# Altium schematic symbol library O_O.SchLib: 227 symbols
Pins are listed as number, name and electrical type; pins without a type are passive.

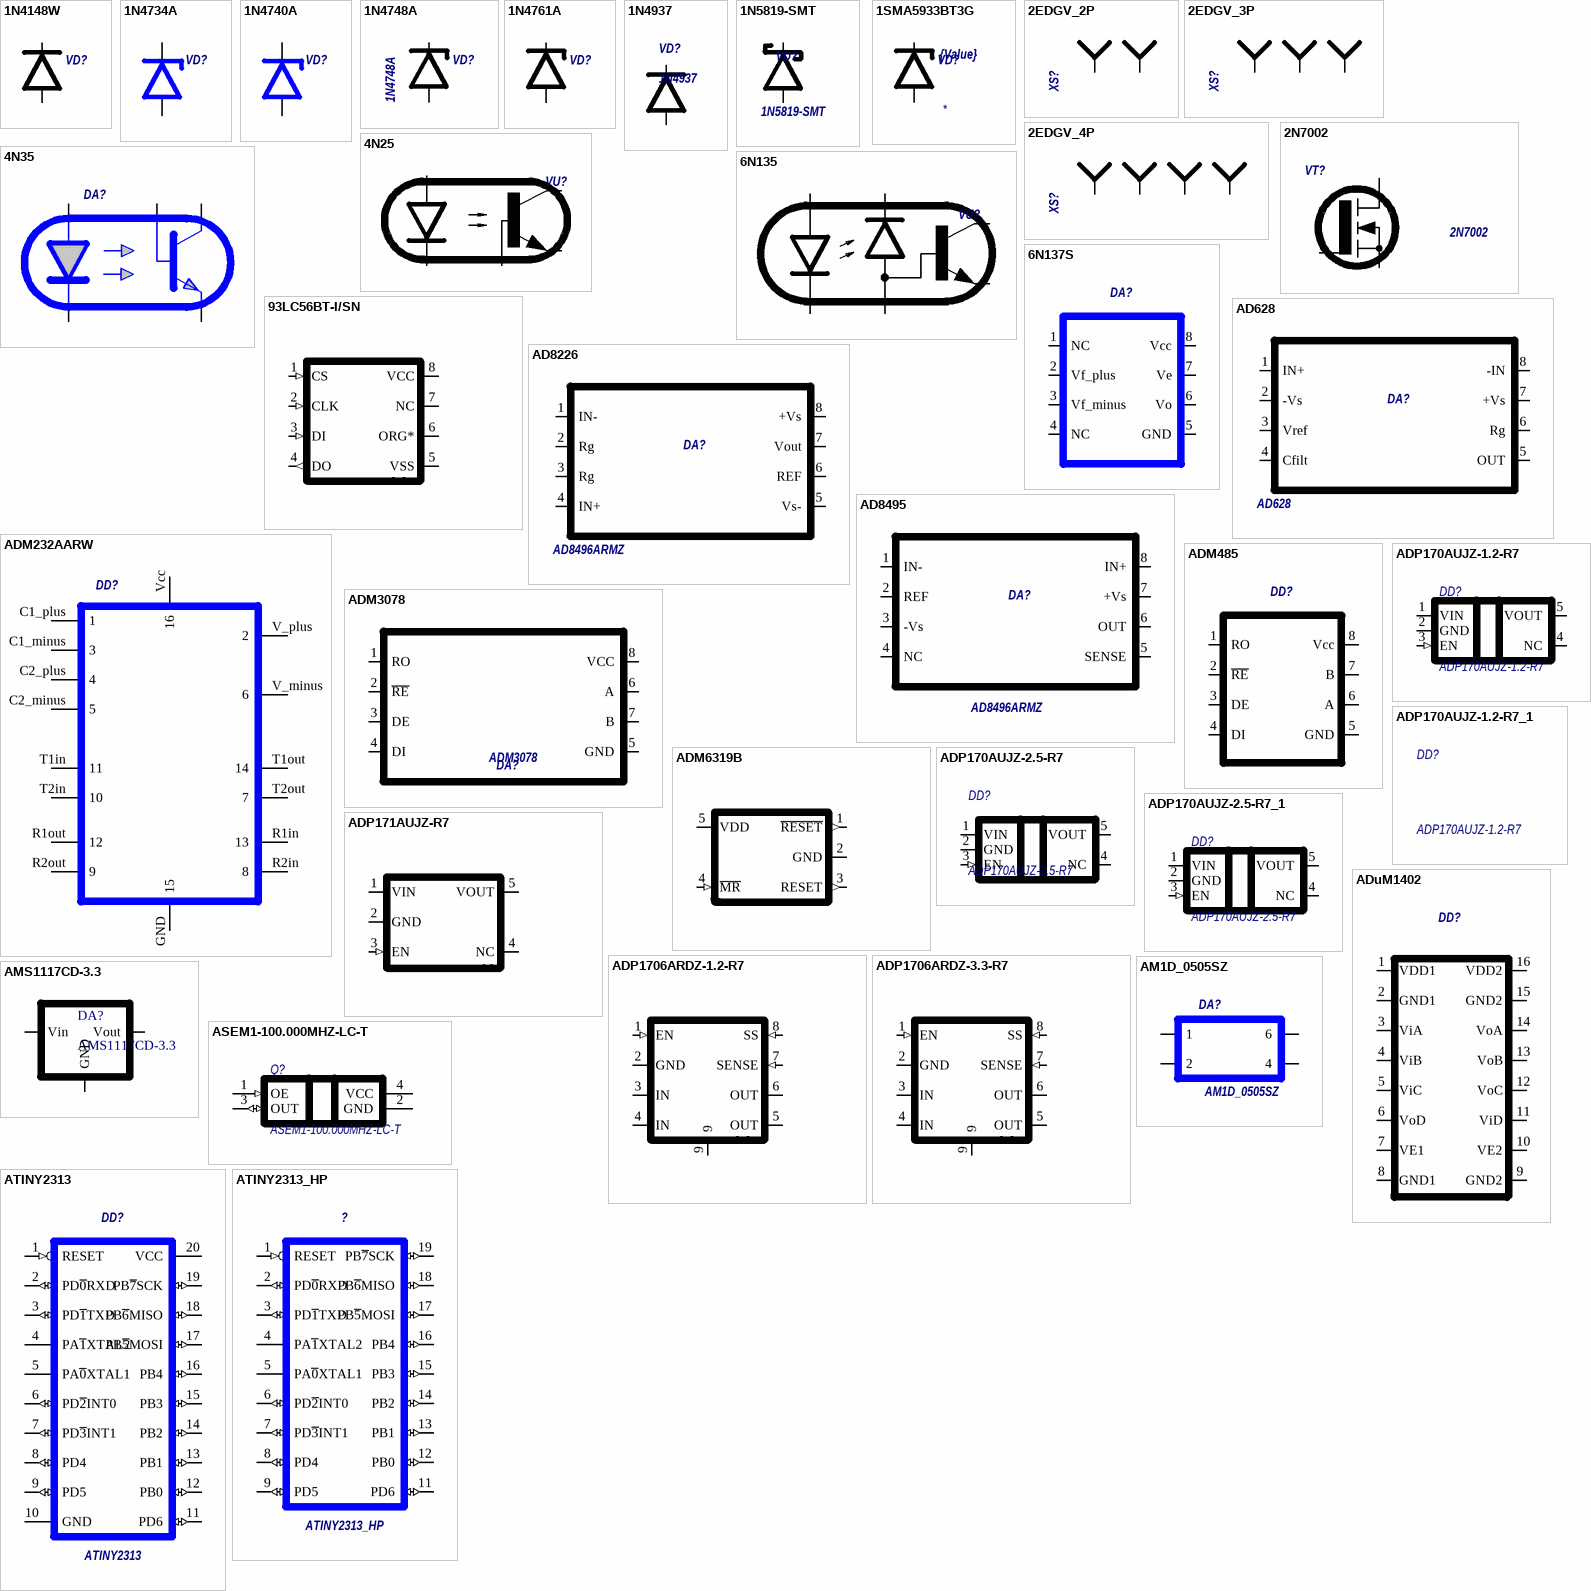
[diagram p0: symbols 1N4148W to ATINY2313_HP]

## 1N4148W
designator VD?  (value not drawn)
Value: {Value}
footprint SOD_123_1N4148W(Primary)
footprint SOD123 (SOD-123; 2 Leads; Body 2.7 x 1.6 mm, (LxW))
footprint SOD323 (SOD-123; 2 Leads; Body 2.7 x 1.6 mm, (LxW))
pins: 1 a, 2 k

## 1N4734A
designator VD?  (value not drawn)
Value: {Value}
footprint DO41
pins: 1 katode, 2 anode

## 1N4740A
designator VD?  (value not drawn)
Value: {Value}
footprint DO41
pins: 1 katode, 2 anode

## 1N4748A
designator VD?
1.0 Watt   Zener Diode 75 Volts; Value: {Value}
footprint DO41
pins: 1 anode, 2 katode

## 1N4761A
designator VD?  (value not drawn)
1.0 Watt   Zener Diode 75 Volts; Value: {Value}
footprint DO41
pins: 1 katode, 2 anode

## 1N4937
designator VD?
1A 600V FastRECTIFIER
footprint DO41
pins: 1 a, 2 k

## 1N5819-SMT
designator VD?  value 1N5819-SMT  (hidden comment: *)
footprint SMA_DO214AC
footprint DO-213AB (Diode SMT package)
pins: 1 a, 2 k

## 1SMA5933BT3G
designator VD?, comment {Value}
22V ZENER DIODE; Value: {Value}; fab: *
footprint SMB_DO214AA
footprint SMA_DO214AC
pins: 1 katode, 2 anode

## 2EDGV_2P
designator XS?  (value not drawn)
Value: *
footprint 2EDGV_2P
footprint 2EDGR_2P
pins: 1, 2

## 2EDGV_3P
designator XS?  (value not drawn)
2EDGV_4P; Value: *
footprint 2EDGR_3P
pins: 1, 2, 3

## 2EDGV_4P
designator XS?  (value not drawn)
Value: *
footprint 2EDGV_4P
footprint 2EDGR_4P
pins: 1, 2, 3, 4

## 2N7002
designator VT?
2N7002 N-channel mosfet; Value: 2N7002
footprint SOT23
pins: 1 gate, 2 source, 3 drain

## 4N25
designator VU?  (value not drawn)
Optocoupler, Phototransistor Output, with Base Connection; Value: {Value}
footprint DIP6_SMD
pins: 1 anode, 2 katode, 4 emitter, 5 collector, 6 base

## 4N35
designator DA?  (value not drawn)
Value: {Value}
footprint DIP6_SMD
pins: 1 anode, 2 cathode, 4 emitter, 5 collector, 6 base

## 6N135
designator VU?  (value not drawn)
High Speed Optocoupler 1 MBd with Transistor Output; Value: {Value}
footprint DIP8_SMD
pins: 2 anode, 3 katode, 5 emitter, 6 collector, 7 base, 8 base

## 6N137S
designator DA?  (value not drawn)
Value: *
footprint DIP8_SMD
pins: 1 NC, 2 Vf_plus, 3 Vf_minus, 4 NC, 5 GND, 6 Vo, 7 Ve, 8 Vcc

## 93LC56BT-I/SN
designator DD?
2K Microwire Compatible Serial EEPROM
footprint MSOP-8
pins: 1 CS (in), 2 CLK (in), 3 DI (in), 4 DO (out), 5 VSS (power), 6 ORG* (power), 7 NC, 8 VCC (power)

## AD628
designator DA?  man: AD628  (hidden comment: *)
footprint SOIC-8
pins: 1 IN+, 2 -Vs, 3 Vref, 4 Cfilt, 5 OUT, 6 Rg, 7 +Vs, 8 -IN

## AD8226
designator DA?  man: AD8496ARMZ  (hidden comment: *)
Wide Supply Range, Rail-to-Rail  Output Instrumentation Amplifier
footprint SOIC-8
footprint MSOP-8
pins: 1 IN-, 2 Rg, 3 Rg, 4 IN+, 5 Vs-, 6 REF, 7 Vout, 8 +Vs

## AD8495
designator DA?, comment AD8496ARMZ
Termocouple Amplifiers With Cold Junction Compensation; man: AD8496ARMZ
footprint MSOP-8
pins: 1 IN-, 2 REF, 3 -Vs, 4 NC, 5 SENSE, 6 OUT, 7 +Vs, 8 IN+

## ADM232AARW
designator DD?  (value not drawn)
Value: *
footprint SOIC16_W_ADM232AARW(Primary)
pins: C1_minus 3, C1_plus 1, C2_minus 5, C2_plus 4, GND 15, R1in 13, R1out 12, R2in 8, R2out 9, T1in 11, T1out 14, T2in 10, T2out 7, V_minus 6, V_plus 2, Vcc 16

## ADM485
designator DD?  (value not drawn)
Value: *
footprint DIP8_SMD
footprint SOIC-8
pins: 1 RO, 2 ~{RE}, 3 DE, 4 DI, 5 GND, 6 A, 7 B, 8 Vcc

## ADM3078
designator DA?
value: ADM3078
footprint SOIC-8
pins: 1 RO, 2 ~{RE}, 3 DE, 4 DI, 5 GND, 6 A, 7 B, 8 VCC

## ADM6319B
designator DD?
Sypply monitor whith manual reset
footprint SOT23-5AN
pins: 1 ~{RESET} (out), 2 GND (power), 3 RESET (out), 4 ~{MR} (in), 5 VDD (power)

## ADP170AUJZ-1.2-R7
designator DD?
footprint SOT23-5AN
pins: 1 VIN, 2 GND, 3 EN (in), 4 NC, 5 VOUT

## ADP170AUJZ-1.2-R7_1
designator DD?, comment ADP170AUJZ-1.2-R7
footprint SOT23-5AN

## ADP170AUJZ-2.5-R7
designator DD?
footprint SOT23-5AN
pins: 1 VIN, 2 GND, 3 EN (in), 4 NC, 5 VOUT

## ADP170AUJZ-2.5-R7_1
designator DD?, comment ADP170AUJZ-2.5-R7
footprint SOT23-5AN
pins: 1 VIN, 2 GND, 3 EN (in), 4 NC, 5 VOUT

## ADP171AUJZ-R7
designator DA?
300 mA, Low Quiescent Current,  CMOS Linear Regulator
footprint SOT23-5AN
pins: 1 VIN, 2 GND (power), 3 EN (in), 4 NC (power), 5 VOUT

## ADP1706ARDZ-1.2-R7
designator DA?
1 A, Low Dropout,  CMOS Linear Regulator
footprint SOIC-8 EP(9lead)
pins: 1 EN (in), 2 GND (power), 3 IN (power), 4 IN (power), 5 OUT (power), 6 OUT (power), 7 SENSE (in), 8 SS (in), 9

## ADP1706ARDZ-3.3-R7
designator DA?
1 A, Low Dropout,  CMOS Linear Regulator
footprint SOIC-8 EP(9lead)
pins: 1 EN (in), 2 GND (power), 3 IN (power), 4 IN (power), 5 OUT (power), 6 OUT (power), 7 SENSE (in), 8 SS (in), 9

## ADuM1402
designator DD?  (value not drawn)
Quad-Channel Digital Isolators; Value: *
footprint SOIC-16W
pins: 1 VDD1, 2 GND1, 3 ViA, 4 ViB, 5 ViC, 6 VoD, 7 VE1, 8 GND1, 9 GND2, 10 VE2, 11 ViD, 12 VoC, 13 VoB, 14 VoA, 15 GND2, 16 VDD2

## AM1D_0505SZ
designator DA?
Value: *
footprint AM1D_0505SZ_AM1D_0505SZ(Primary)
pins: 1, 2, 4, 6

## AMS1117CD-3.3
designator DA?
800mA Low-Dropout Linear Regulator
footprint SOT223
pins: 1 Vin, 2 GND, 3 Vout

## ASEM1-100.000MHZ-LC-T
designator Q?
footprint QFN3.2x2.5 (ASEM Oscillator)
pins: 1 OE (in), 2 GND (power), 3 OUT (io), 4 VCC (power)

## ATINY2313
designator DD?
Value: *
footprint SO20
pins: 1 RESET (in), 2 PD~{0}RXD (io), 3 PD~{1}TXD (io), 4 PA~{1}XTAL2, 5 PA~{0}XTAL1, 6 PD~{2}INT0 (io), 7 PD~{3}INT1 (io), 8 PD4 (io), 9 PD5 (io), 10 GND (power), 11 PD6 (io), 12 PB0 (io), 13 PB1 (io), 14 PB2 (io), 15 PB3 (io), 16 PB4 (io), 17 PB~{5}MOSI (io), 18 PB~{6}MISO (io), 19 PB~{7}SCK (io), 20 VCC (power)

## ATINY2313_HP
designator ?
Value: *
footprint SO20
pins: 1 RESET (in), 2 PD~{0}RXD (io), 3 PD~{1}TXD (io), 4 PA~{1}XTAL2, 5 PA~{0}XTAL1, 6 PD~{2}INT0 (io), 7 PD~{3}INT1 (io), 8 PD4 (io), 9 PD5 (io), 10 GND (power) hidden, 11 PD6 (io), 12 PB0 (io), 13 PB1 (io), 14 PB2 (io), 15 PB3 (io), 16 PB4 (io), 17 PB~{5}MOSI (io), 18 PB~{6}MISO (io), 19 PB~{7}SCK (io), 20 +5V (power) hidden

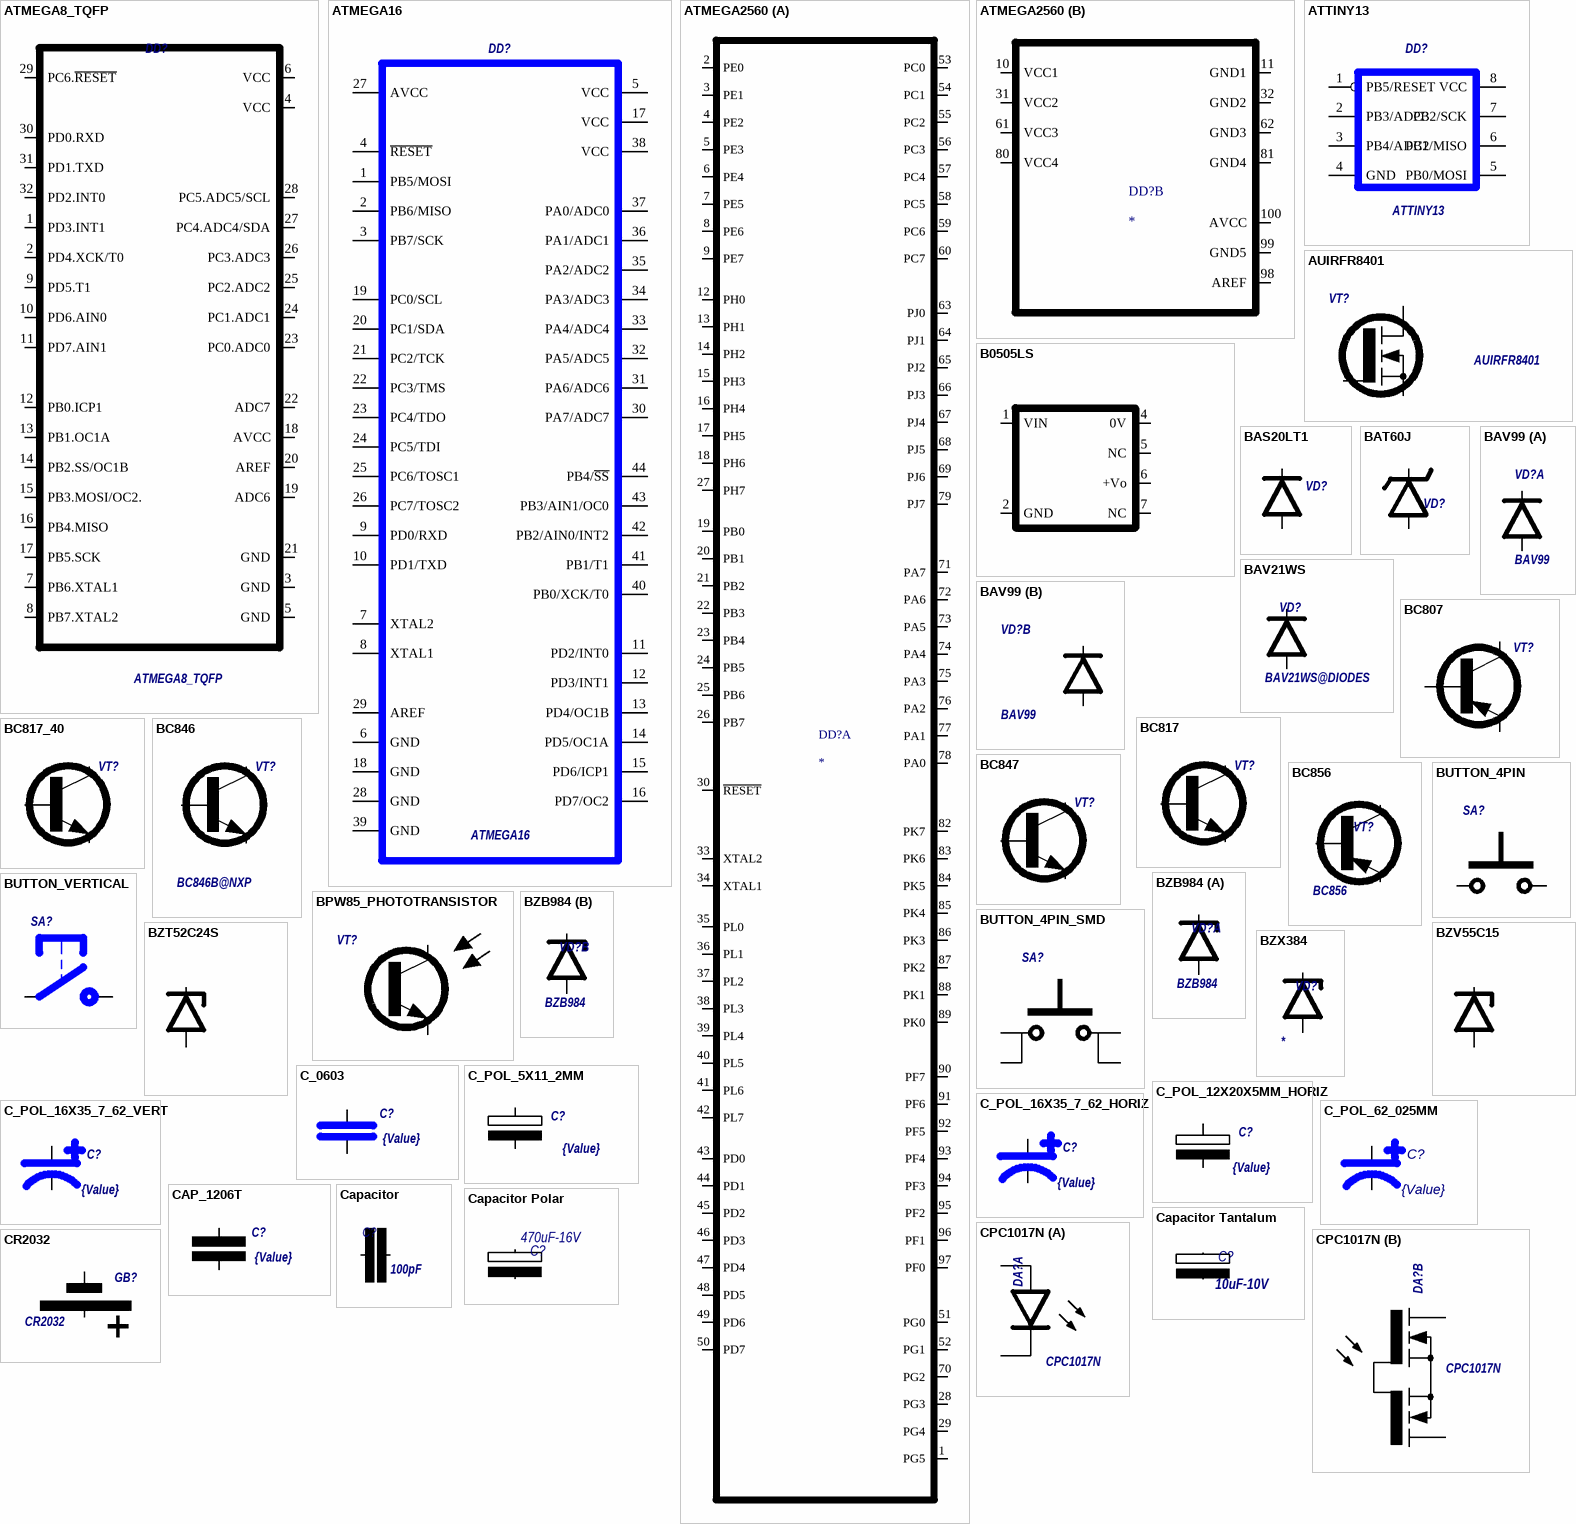
[diagram p1: symbols ATMEGA8_TQFP to CR2032]

## ATMEGA8_TQFP
designator DD?
Value: *
footprint TQFP32A
pins: 1 PD3.INT1, 2 PD4.XCK/T0, 3 GND, 4 VCC, 5 GND, 6 VCC, 7 PB6.XTAL1, 8 PB7.XTAL2, 9 PD5.T1, 10 PD6.AIN0, 11 PD7.AIN1, 12 PB0.ICP1, 13 PB1.OC1A, 14 PB2.SS/OC1B, 15 PB3.MOSI/OC2., 16 PB4.MISO, 17 PB5.SCK, 18 AVCC, 19 ADC6, 20 AREF, 21 GND, 22 ADC7, 23 PC0.ADC0, 24 PC1.ADC1, 25 PC2.ADC2, 26 PC3.ADC3, 27 PC4.ADC4/SDA, 28 PC5.ADC5/SCL, 29 PC6.~{RESET}, 30 PD0.RXD, 31 PD1.TXD, 32 PD2.INT0

## ATMEGA16
designator DD?
Value: *
footprint TQFP44
pins: 1 PB5/MOSI, 2 PB6/MISO, 3 PB7/SCK, 4 ~{RESET}, 5 VCC, 6 GND, 7 XTAL2, 8 XTAL1, 9 PD0/RXD, 10 PD1/TXD, 11 PD2/INT0, 12 PD3/INT1, 13 PD4/OC1B, 14 PD5/OC1A, 15 PD6/ICP1, 16 PD7/OC2, 17 VCC, 18 GND, 19 PC0/SCL, 20 PC1/SDA, 21 PC2/TCK, 22 PC3/TMS, 23 PC4/TDO, 24 PC5/TDI, 25 PC6/TOSC1, 26 PC7/TOSC2, 27 AVCC, 28 GND, 29 AREF, 30 PA7/ADC7, 31 PA6/ADC6, 32 PA5/ADC5, 33 PA4/ADC4, 34 PA3/ADC3, 35 PA2/ADC2, 36 PA1/ADC1, 37 PA0/ADC0, 38 VCC, 39 GND, 40 PB0/XCK/T0, 41 PB1/T1, 42 PB2/AIN0/INT2, 43 PB3/AIN1/OC0, 44 PB4/~{SS}

## ATMEGA2560
designator DD?
Atmega2560 - TQFP100; Velue: *
footprint TQFP100
part A pins: 1 PG5, 2 PE0, 3 PE1, 4 PE2, 5 PE3, 6 PE4, 7 PE5, 8 PE6, 9 PE7, 12 PH0, 13 PH1, 14 PH2, 15 PH3, 16 PH4, 17 PH5, 18 PH6, 19 PB0, 20 PB1, 21 PB2, 22 PB3, 23 PB4, 24 PB5, 25 PB6, 26 PB7, 27 PH7, 28 PG3, 29 PG4, 30 ~{RESET}, 33 XTAL2, 34 XTAL1, 35 PL0, 36 PL1, 37 PL2, 38 PL3, 39 PL4, 40 PL5, 41 PL6, 42 PL7, 43 PD0, 44 PD1, 45 PD2, 46 PD3, 47 PD4, 48 PD5, 49 PD6, 50 PD7, 51 PG0, 52 PG1, 53 PC0, 54 PC1, 55 PC2, 56 PC3, 57 PC4, 58 PC5, 59 PC6, 60 PC7, 63 PJ0, 64 PJ1, 65 PJ2, 66 PJ3, 67 PJ4, 68 PJ5, 69 PJ6, 70 PG2, 71 PA7, 72 PA6, 73 PA5, 74 PA4, 75 PA3, 76 PA2, 77 PA1, 78 PA0, 79 PJ7, 82 PK7, 83 PK6, 84 PK5, 85 PK4, 86 PK3, 87 PK2, 88 PK1, 89 PK0, 90 PF7, 91 PF6, 92 PF5, 93 PF4, 94 PF3, 95 PF2, 96 PF1, 97 PF0
part B pins: 10 VCC1, 11 GND1, 31 VCC2, 32 GND2, 61 VCC3, 62 GND3, 80 VCC4, 81 GND4, 98 AREF, 99 GND5, 100 AVCC

## ATTINY13
designator DD?
Value: *
footprint SOIC8
pins: 1 PB5/RESET, 2 PB3/ADC3, 3 PB4/ADC2, 4 GND, 5 PB0/MOSI, 6 PB1/MISO, 7 PB2/SCK, 8 VCC

## AUIRFR8401
designator VT?
Value: AUIRFR8401
footprint DPAK
pins: 1 source, 2 gate, 3 drain

## B0505LS
designator DD?
DC/DC isolated converter 1W 200mA
footprint 0505LS-ISO_POWER
pins: 1 VIN (power), 2 GND (power), 4 0V (power), 5 NC (power), 6 +Vo (power), 7 NC (power)

## BAS20LT1
designator VD?  (value not drawn)
High Voltage  Switching Diode; Value: {Value}
footprint SOT23
pins: 1 a, 3 k

## BAT60J
designator VD?, comment BAT60JFILM  (value not drawn)
SMALL SIGNAL SCHOTTKY DIODE  10V 3A; Value: {Value}
footprint SOD323 (SOD-123; 2 Leads; Body 2.7 x 1.6 mm, (LxW))
pins: 1 anode, 2 katode

## BAV21WS
designator VD?  man: BAV21WS@DIODES  (hidden comment: *)
SURFACE MOUNT HIGH VOLTAGE FAST SWITCHING DIODE
footprint SOD323 (SOD-123; 2 Leads; Body 2.7 x 1.6 mm, (LxW))
pins: 1 a, 2 k

## BAV99
designator VD?  type: BAV99  (hidden comment: *)
footprint SOT23
part A pins: 1 a, 3 k
part B pins: 2 k, 3 a

## BC807
designator VT?  (value not drawn)
BC807; Value: {Value}
footprint SOT23
pins: 1 base, 2 emitter, 3 collector

## BC817
designator VT?  (value not drawn)
Value: {Value}
footprint SOT23
pins: 1 base, 2 emitter, 3 collector

## BC817_40
designator VT?  (value not drawn)
Value: {Value}
footprint SOT23
pins: 1 base, 2 emitter, 3 collector

## BC846
designator VT?  man: BC846B@NXP  (hidden comment: BC846)
footprint SOT23
pins: 1 base, 2 emitter, 3 collector

## BC847
designator VT?  (value not drawn)
Value: {Value}
footprint SOT23
pins: 1 base, 2 emitter, 3 collector

## BC856
designator VT?  man: BC856  (hidden comment: *)
footprint SOT23
pins: 1 base, 2 emitter, 3 collector

## BPW85_PHOTOTRANSISTOR
designator VT?  (value not drawn)
Value: {Value}
footprint PLS_1X2
pins: 1 emitter, 2 collector

## BUTTON_4PIN
designator SA?  (value not drawn)
Value: *
footprint BUTTON_4PIN_BUTTON_4PIN(Primary); pin to pad 1>1+2 3>3+4
pins: 1, 3

## BUTTON_4PIN_SMD
designator SA?  (value not drawn)
Value: *
footprint BUTTON_SMD_4PIN
pins: 1, 2, 3, 4

## BUTTON_VERTICAL
designator SA?  (value not drawn)
Value: *
footprint BUTTON_VERTICAL
pins: 1, 2

## BZB984
designator VD?  man: BZB984  (hidden comment: *)
Dual Zener diode
footprint SOT663
part A pins: 1 katode, 3 anode
part B pins: 2 katode, 3 anode

## BZT52C24S
designator VD?
Zener diode 24V
footprint SOD323 (SOD-123; 2 Leads; Body 2.7 x 1.6 mm, (LxW))
pins: 1 anode, 2 katode

## BZV55C15
designator VD?
Zener diode 15V
footprint DL-41 (SMT diode)
pins: 1 anode, 2 katode

## BZX384
designator VD?
Zener diode; man: *
footprint SOD323 (SOD-123; 2 Leads; Body 2.7 x 1.6 mm, (LxW))
pins: 1 katode, 2 anode

## C_0603
designator C?  value {Value}  (hidden comment: C_0603)
footprint SMD 0603
pins: 1 2, 2 1

## C_POL_5X11_2MM
designator C?  value {Value}  (hidden comment: C_POL_5X11_2MM)
footprint CAP_POLAR_5X11MM_VERT_2_C_POL_5X11_2MM(Primary)
pins: minus 2, plus 1

## C_POL_12X20X5MM_HORIZ
designator C?  value {Value}  (hidden comment: C_POL_12X20X5MM_HORIZ)
footprint C_POL_12X20X5MM_C_POL_12X20X5MM_HORIZ(Primary)
pins: 1, 2

## C_POL_16X35_7_62_HORIZ
designator C?  value {Value}  (hidden comment: C_POL_16X35_7_62_HORIZ)
footprint CAP_POLAR_16X35MM_HORIZ_7_62_C_POL_16X35_7_62_HORIZ(Primary)
pins: minus 2, plus 1

## C_POL_16X35_7_62_VERT
designator C?  value {Value}  (hidden comment: C_POL_16X35_7_62_VERT)
footprint CAP_POLAR_16X35MM_VERT_7_62_C_POL_16X35_7_62_VERT(Primary)
pins: minus 2, plus 1

## C_POL_62_025MM
designator C?  value {Value}  (hidden comment: C_POL_62_025MM)
footprint CAPD62_025MM_C_POL_62_025MM(Primary)
pins: MINUS 2, PLUS 1

## CAP_1206T
designator C?  value {Value}  (hidden comment: CAP_1206T)
footprint 1206T_CAP_1206T(Primary)
pins: 1, 2

## Capacitor
designator C?, comment 100pF
Capacitor; Value: 100pF
simulation model CAP (Capacitor)
signal-integrity model Cap
footprint C0603
footprint C0402 (Chip Capacitor, Body 1.0x0.5mm, IPC High Density)
footprint CAPC2012L
footprint C0805 (Chip Capacitor, Body 2.0x1.3mm, IPC Medium Density)
footprint K73-17 (Film capacitor)
footprint 15mm_FILM_CAP
footprint C1206
footprint 15mm_HIGH VOLTAGE_CAP
footprint 10mm_HIGH VOLTAGE_CAP - duplicate
footprint C2220
footprint C1808
footprint X2 EMI filter capacitor (MKP-224K0305AB1151-P)
footprint FIlm capacitor Polyester_ ptich 15mm
footprint CAP_CERAM_7.62_HORIZONTAL-2000V
footprint C1812
footprint C1210
pins: 1, 2

## Capacitor Polar
designator C?, comment 470uF-16V
=Value; Value: 470uF-16V
footprint EEEFK1C471P (Panasonic EEEFK1C471P)
footprint EEETKK101UAQ (Panasonic EEETKK101UAQ)
footprint CAP_POLAR10x12x5mm
footprint CAP_POLAR16x36x7.5mm
footprint CAP_POLAR_6.3X11X2.5mm
footprint EEE-G-10x10 (SMD aluminium electrolityc capacitor)
footprint EEE-K16-20x21 (SMD aluminium electrolityc capacitor)
footprint EEE-E-8x6.2 (SMD aluminium electrolityc capacitor)
footprint CAP_POLAR_16X25MM_horizontal
footprint ALU_SMD_D (Surface mount aluminium capacitor)
footprint Cap_El_13x25x5_Horizontal
footprint Cap_El_5x11x2_horizontal
footprint Cap_El_6.3x11x2.5_horizontal
footprint Cap_El_5x11x2_vertical
footprint Cap_El_8x11x2_horizontal
pins: 1, 2

## Capacitor Tantalum
designator C?, comment 10uF-10V
=Value; DEV: CPS_3216_01; FAB: AVX; TEMP: -55°C а 125°C; BOI: A; DESIG: LOW ESR TANTALUM CAPACITOR; TOL: 10%; REF: TPSA106K010R1800; Value: 10uF-10V
footprint CAPC3216N (Chip Capacitor, Body 3.2x1.6mm, IPC Medium Density)
footprint C7343_tant
footprint Case_B_3528
footprint Case_E_7353H
footprint C0805_CaseP_tantal
footprint C1411_CaseB_Tant
footprint C2916_CaseD_Tant
footprint C2412_CaseC_Tant
footprint C1206_CaseA_Tant
pins: 1 P, 2 M

## CPC1017N
designator DA?
Value: {Value}; man: CPC1017N
footprint CPC1017N
part A pins: 1 a, 2 k
part B pins: 3 drain, 4 drain

## CR2032
designator GB?
Value: {Value}
footprint BH2_SMD_CR2032(Primary)
pins: 1, 2

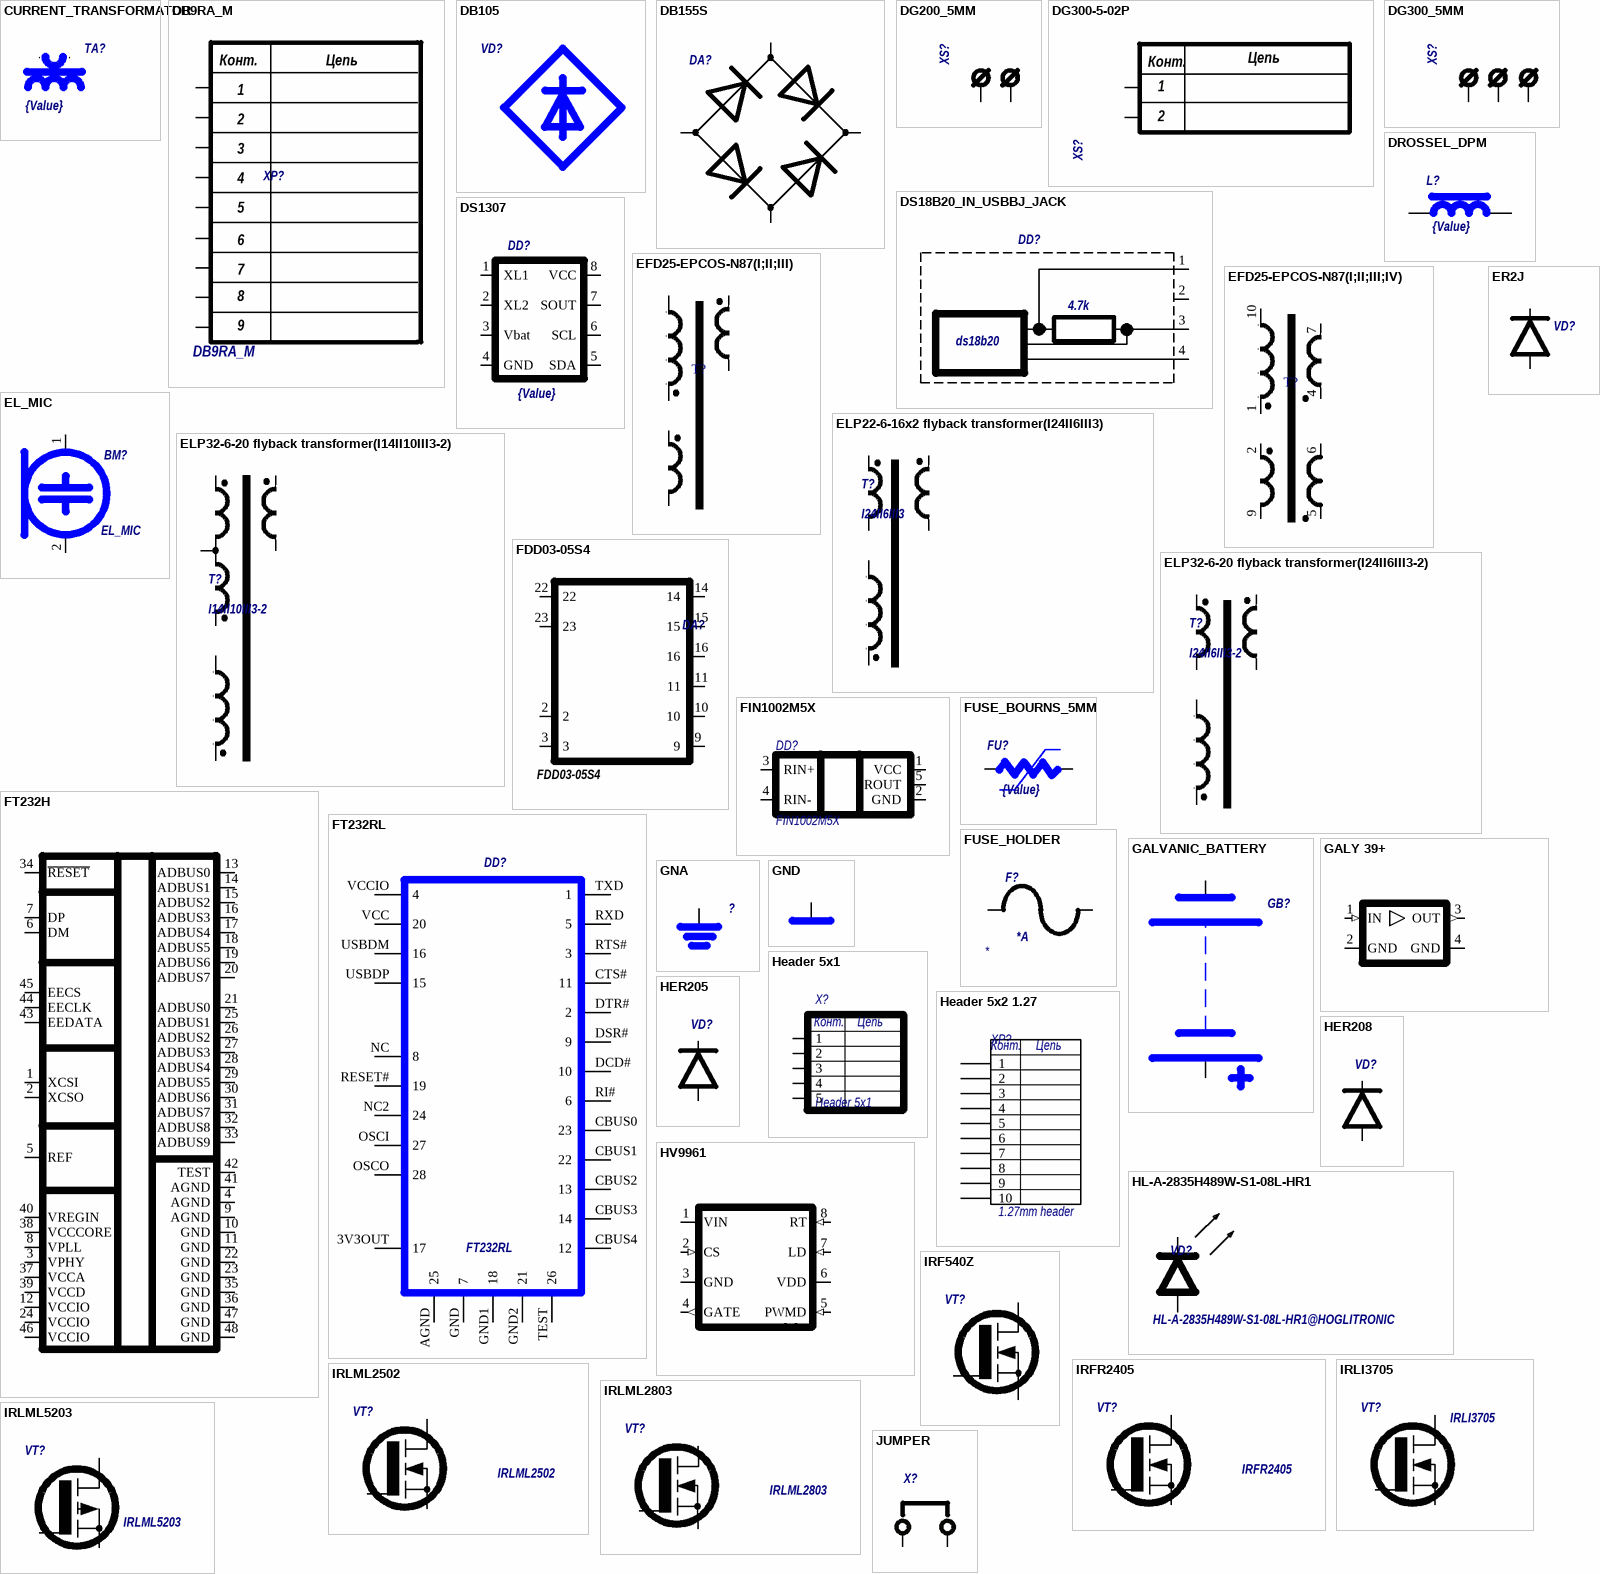
[diagram p2: symbols CURRENT_TRANSFORMATOR to JUMPER]

## CURRENT_TRANSFORMATOR
designator TA?  value {Value}  (hidden comment: CURRENT_TRANSFORMATOR)
footprint CERRENT_TRANSFORMATOR_CURRENT_TRANSFORMATOR(Primary)
pins: 1, 2, 3, 4

## DB9RA_M
designator XP?  man: DB9RA_M  (hidden comment: *)
footprint DB9RA_M
pins: 1, 2, 3, 4, 5, 6, 7, 8, 9
text: Конт.; Цепь

## DB105
designator VD?  (value not drawn)
Value: {Value}
footprint DB1_DB105(Primary)
pins: ac1, ac2, minus, plus

## DB155S
designator DA?  (value not drawn)
Silicon Bridge rectifiers; Value: {Value}
footprint DB155S
pins: 1, 2, 3, 4

## DG200_5MM
designator XS?  (value not drawn)
DG300_5MM; Value: *
footprint DG200_5MM
pins: 1, 2

## DG300-5-02P
designator XS?  (value not drawn)
2x pole PCB clemm; Value: *
footprint DG300-5-02P
pins: 1 XS, 2 XS
text: Цепь; Конт.

## DG300_5MM
designator XS?  (value not drawn)
Value: *
footprint DG300_5MM
pins: 1, 2, 3

## DROSSEL_DPM
designator L?  value {Value}  (hidden comment: DROSSEL_DPM)
footprint DROSSEL_DPM
pins: 1, 2

## DS18B20_IN_USBBJ_JACK
designator DD?  (value not drawn)
Value: *
footprint USBB_FS_DS18B20_IN_USBBJ_JACK(Primary)
footprint USB/SM0.8-6H5 (Connector; USB2.0, Type B, SM; 5 Position; Right Angle); pin to pad 4>5
pins: 1 5V, 2 minus, 3 plus, 4 GND
text: 4.7k; ds18b20

## DS1307
designator DD?  value {Value}  (hidden comment: DS1307)
footprint SO8
pins: 1 XL1, 2 XL2, 3 Vbat, 4 GND, 5 SDA, 6 SCL, 7 SOUT, 8 VCC

## EFD25-EPCOS-N87(I;II;III)
designator T?  (value not drawn)
man: B66421-G-X187,N87@EPCOS
footprint EFD25-EPCOS-N87
pins: 1, 2, 4, 7, 9, 10

## EFD25-EPCOS-N87(I;II;III;IV)
designator T?  (value not drawn)
man: B66421-G-X187,N87@EPCOS
footprint EFD25-EPCOS-N87
pins: 1, 2, 4, 5, 6, 7, 9, 10

## EL_MIC
designator BM?
Value: *
footprint PLS_1X2
pins: 1, 2

## ELP22-6-16x2 flyback transformer(I24II6III3)
designator T?, comment I24II6III3
Planar flyback transformer
footprint ELP22-6-16x2 flyback transformer(I24II6III3) (Planar flyback transformer)
pins: 1, 2, 3, 4, 5, 6

## ELP32-6-20 flyback transformer(I14II10III3-2)
designator T?, comment I14II10III3-2
Planar flyback transformer
footprint ELP32-6-20 flyback transformer(I14II10III3-2) (Planar flyback transformer)
pins: 1, 2, 3, 4, 5, 6, 7

## ELP32-6-20 flyback transformer(I24II6III3-2)
designator T?, comment I24II6III3-2
Planar flyback transformer
footprint ELP32-6-20 flyback transformer(I24II6III3-2) (Planar flyback transformer)
pins: 1, 2, 3, 4, 5, 6

## ER2J
designator VD?  (value not drawn)
Pulse reactifier; Value: {Value}; fab: *
footprint SMB_DO214AA
footprint SMA_DO214AC
pins: 1, 2

## FDD03-05S4
designator DA?  man: FDD03-05S4  (hidden comment: *)
DC - DC CONVERTER  2.5 ~ 3W SINGLE OUTPUT
footprint FDD03-05S4
pins: 2, 3, 9, 10, 11, 14, 15, 16, 22, 23

## FIN1002M5X
designator DD?
footprint SOT23-5AN
footprint SOT23_5LEAD
pins: 1 VCC, 2 GND, 3 RIN+, 4 RIN-, 5 ROUT

## FT232H
designator DD?
SINGLE CHANNEL HI-SPEED USB TO MULTIPURPOSE UART/FIFO IC
footprint LQFP48 (Thin QFP, 48-Leads, Body 7x7mm, Pitch 0.5mm)
pins: 1 XCSI, 2 XCSO, 3 VPHY, 4 AGND, 5 REF, 6 DM, 7 DP, 8 VPLL, 9 AGND, 10 GND, 11 GND, 12 VCCIO, 13 ADBUS0, 14 ADBUS1, 15 ADBUS2, 16 ADBUS3, 17 ADBUS4, 18 ADBUS5, 19 ADBUS6, 20 ADBUS7, 21 ADBUS0, 22 GND, 23 GND, 24 VCCIO, 25 ADBUS1, 26 ADBUS2, 27 ADBUS3, 28 ADBUS4, 29 ADBUS5, 30 ADBUS6, 31 ADBUS7, 32 ADBUS8, 33 ADBUS9, 34 ~{RESET}, 35 GND, 36 GND, 37 VCCA, 38 VCCCORE, 39 VCCD, 40 VREGIN, 41 AGND, 42 TEST, 43 EEDATA, 44 EECLK, 45 EECS, 46 VCCIO, 47 GND, 48 GND

## FT232RL
designator DD?
Value: *
footprint SSOP28_FT232RL(Primary)
pins: 3V3OUT 17, AGND 25, CBUS0 23, CBUS1 22, CBUS2 13, CBUS3 14, CBUS4 12, CTS# 11, DCD# 10, DSR# 9, DTR# 2, GND 7, GND1 18, GND2 21, NC 8, NC2 24, OSCI 27, OSCO 28, RESET# 19, RI# 6, RTS# 3, RXD 5, TEST 26, TXD 1, USBDM 16, USBDP 15, VCC 20, VCCIO 4

## FUSE_BOURNS_5MM
designator FU?  value {Value}  (hidden comment: FUSE_BOURNS_5MM)
footprint FUSE_BOURNS_FUSE_BOURNS_5MM(Primary)
pins: 1, 2

## FUSE_HOLDER
designator F?, comment *A
FUSE_HOLDER; Value: *A; fab: *
footprint FUSE_HOLDER
footprint FUSE VP1-2
footprint ВП2Б-1В
pins: 1, 2

## GALVANIC_BATTERY
designator GB?  (value not drawn)
GALVANIC_BATTERY; Value: {Value}
footprint GALVANIC_BATTERY_GALVANIC_BATTERY(Primary)
pins: GND 1, VCC 2 (power)

## GALY 39+
designator DA?
Surface Mount  Monolithic Amplifier
footprint DF782 (case for GALI-39+)
pins: 1 IN (in), 2 GND (power), 3 OUT (out), 4 GND (power)

## GNA
designator ?  (value not drawn)
GNA; Value: *
pins: 1 GNA (power)

## GND
designator ?  (value not drawn)
GND; Value: *
pins: 1 GND

## Header 5x1
designator X?
footprint HDR1X5
pins: 1, 2, 3, 4, 5
text: Конт.; Цепь

## Header 5x2 1.27
designator XP?, comment 1.27mm header
Header; LatestRevisionDate: 17-Jul-2002; LatestRevisionNote: Re-released for DXP Platform.; Publisher: Altium Limited; Value: 1.27mm header
signal-integrity model Connector
footprint 10PLD_0_7mm
pins: 1, 2, 3, 4, 5, 6, 7, 8, 9, 10
text: Конт.; Цепь

## HER205
designator VD?  (value not drawn)
2A 400V HIGH EFFICIENCY RECTIFIER
footprint DO15
pins: 1 a, 2 k

## HER208
designator VD?  (value not drawn)
2A 1000V HIGH EFFICIENCY RECTIFIER
footprint DO15
pins: 1 a, 2 k

## HL-A-2835H489W-S1-08L-HR1
designator VD?  man: HL-A-2835H489W-S1-08L-HR1@HOGLITRONIC  (hidden comment: *)
HL-A-2835H489W-S1-08L-HR1
footprint LED_2835
pins: 1 A, 2 K

## HV9961
designator DD?
LED Driver with Average-Mode  Constant Current Control
footprint SOIC-8
pins: 1 VIN (power), 2 CS (in), 3 GND (power), 4 GATE (out), 5 PWMD (in), 6 VDD (power), 7 LD (in), 8 RT (in)

## IRF540Z
designator VT?  (value not drawn)
IRF540Z; Value: {Value}
footprint TO220_H
pins: 1 gate, 2 drain, 3 source

## IRFR2405
designator VT?
Power n-channel MOSFET ,55V,56A,0.016Ohm; Value: IRFR2405
footprint DPAK
pins: 1 gate, 2 source, 3 drain

## IRLI3705
designator VT?
Value: IRLI3705
footprint TO220_V_
pins: 1 gate, 2 drain, 3 source

## IRLML2502
designator VT?
Value: IRLML2502
footprint SOT23
pins: 1 gate, 2 source, 3 drain

## IRLML2803
designator VT?
HEXFET® Power MOSFET; Value: IRLML2803
footprint SOT23
pins: 1 gate, 2 source, 3 drain

## IRLML5203
designator VT?
IRLML5203 p-channel mosfet; Value: IRLML5203
footprint SOT23
pins: 1 gate, 2 source, 3 drain

## JUMPER
designator X?  (value not drawn)
Value: *
footprint JUMPER
pins: 1 2, 2 1

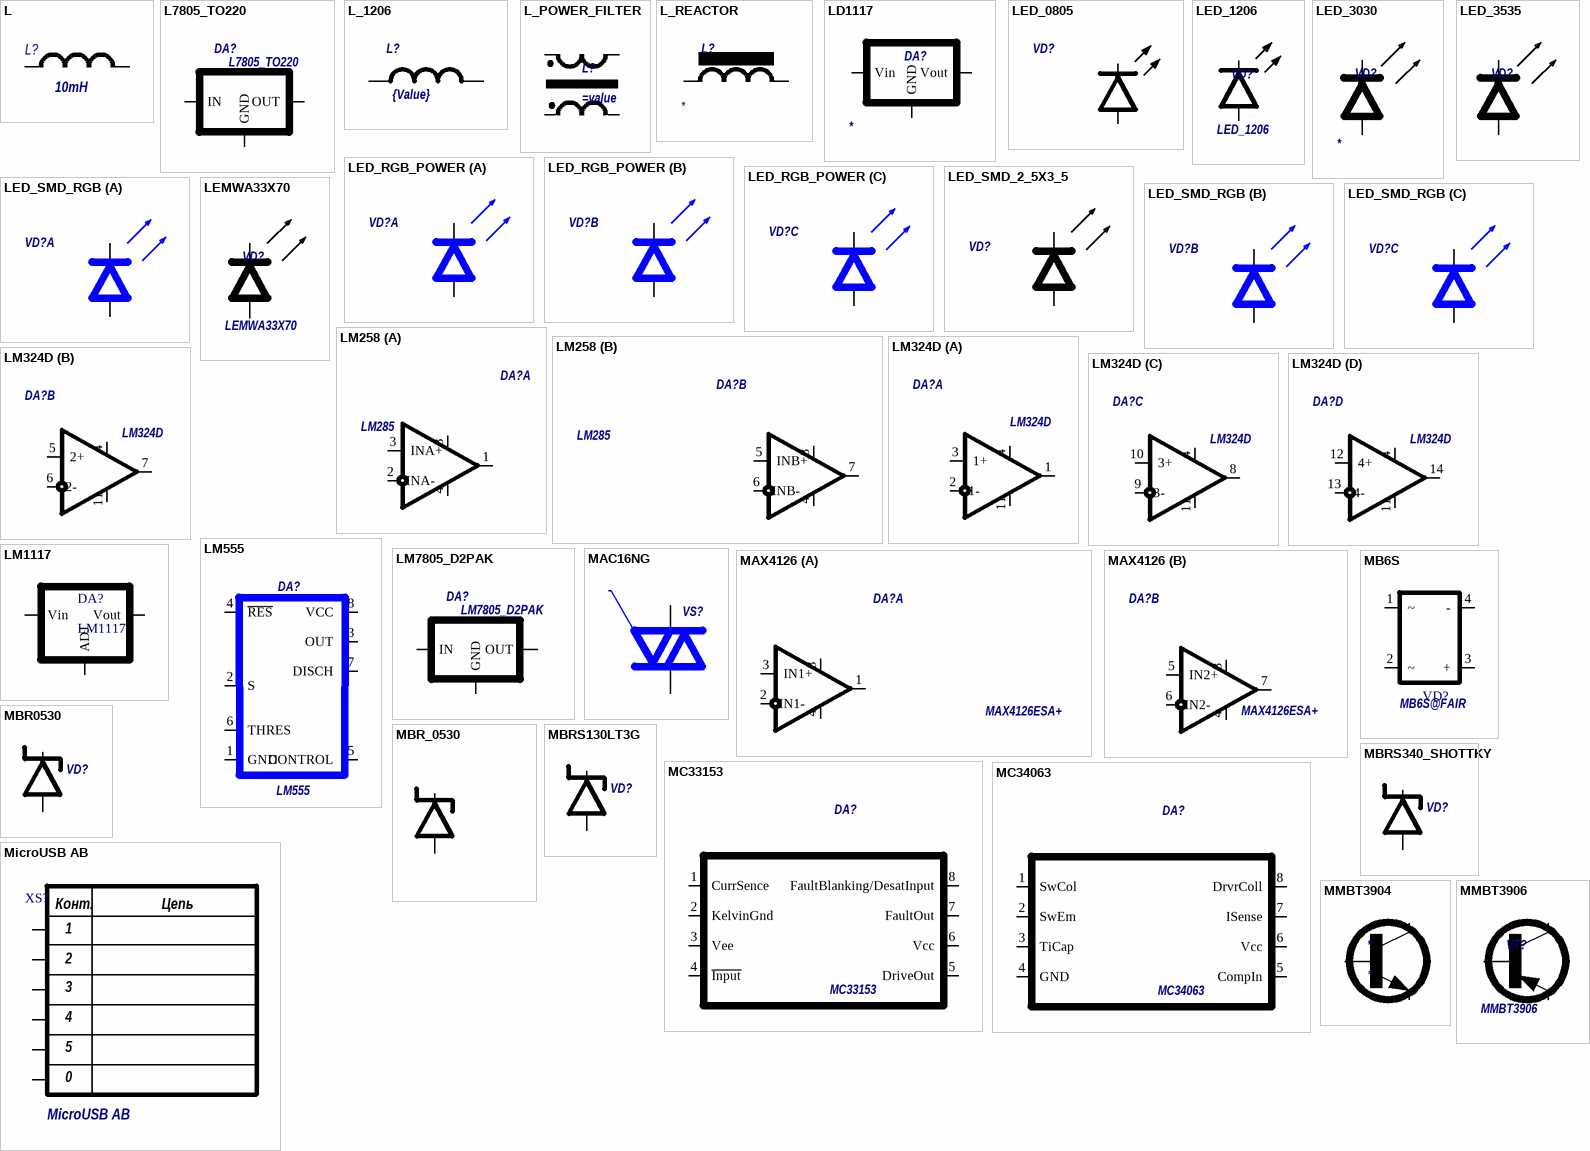
[diagram p3: symbols L to MMBT3906]

## L
designator L?, comment 10mH
Inductor; Code_IEC: 1005; Published: 8-Jun-2000; LatestRevisionDate: 29-May-2009; LatestRevisionNote: IPC-7351 Footprint Added.; PackageReference: 0402-A; Publisher: Altium Limited; PackageDescription: Chip Inductor; Code_JEITA: 0402; Value: 10mH
simulation model INDUCTOR (Inductor)
signal-integrity model Inductor
footprint R0603 (SMD0603)
footprint R0402 (Chip Resistor, Body 1.1x0.5mm, IPC Medium Density)
footprint Colicraft DO1608-103 (Inductor)
footprint INDC2012N (Chip Inductor, Body 2.0x1.2mm, IPC Medium Density)
footprint RESISTOR_0.25W_VERTICAL
footprint RESISTOR_0.25W_HORIZONTAL_PITCH 15.0mm
pins: 1, 2

## L7805_TO220
designator DA?
Value: *
footprint TO220_H_L7805_TO220(Primary)
footprint TO220_SMD
pins: 1 IN, 2 GND, 3 OUT

## L_1206
designator L?  value {Value}  (hidden comment: L_1206)
footprint 1206T
footprint RESISTOR_0.25W_VERTICAL
pins: 1, 2

## L_POWER_FILTER
designator L?
Power filter choke; fab: *
footprint B82720S_CHOKE_DUAL_PLANAR_DROSSEL (Power line choke)
footprint Sinphaze_SMD_Filter (Maurata 5000series); pin to pad 1>2 4>3 8>4
footprint DR331-474BE
footprint PLA10AN3030R4R2
pins: 1, 4, 5, 8

## L_REACTOR
designator L?
L_AVCC; fab: *; value: *
footprint L_AVCC
footprint L_ChokeCoil_ELL5PS (Inductor)
footprint Planar drossel 1.5A 330u
footprint L_SMD_2525
footprint L_SMD 1212
footprint LQH32PN
footprint SDR1006
pins: 1, 2

## LD1117
designator DA?
man: *
footprint SOT223
footprint DPAK
pins: 1 Vin, 2 GND, 3 Vout

## LED_0805
designator VD?  (value not drawn)
Value: {Value}
footprint led0805
footprint LED1608-0603 (Chip Diode; Body 1.6 x 0.8 mm (LxW typ))
pins: 1 K, 2 A

## LED_1206
designator VD?  man: LED_1206  (hidden comment: *)
footprint SMD_LED_1206
pins: 1 K, 2 A

## LED_3030
designator VD?
man: *
footprint LED_3030_NICHIA
pins: 1 A, 2 K

## LED_3535
designator VD?  (value not drawn)
footprint LED_3535
pins: 1 A, 2 K

## LED_RGB_POWER
designator VD?  (value not drawn)
Value: {Value}
footprint LED_POWERSMD_RGB_LED_RGB_POWER(Primary)
part A pins: A1 A, K1 K
part B pins: A2 A, K2 K
part C pins: A3 A, K3 K

## LED_SMD_2_5X3_5
designator VD?  (value not drawn)
Value: {Value}
footprint SMD_LED_2_5X3_5MM
pins: 1 A, 2 K

## LED_SMD_RGB
designator VD?  (value not drawn)
Value: {Value}
footprint LED_RGB_SMD_LED_SMD_RGB(Primary)
part A pins: Ab A, Kb K
part B pins: Ar A, Kr K
part C pins: Ag A, Kg K

## LEMWA33X70
designator VD?  man: LEMWA33X70  (hidden comment: *)
footprint LG_HC35С0-3535 (LG power led)
pins: 1 A, 2 K

## LM258
designator DA?  man: LM285  (hidden comment: *)
footprint SOIC-8
part A pins: 1 OUT1, 2 INA-, 3 INA+, 4 VEE, 8 VCC
part B pins: 4 VEE, 5 INB+, 6 INB-, 7 OUT2, 8 VCC

## LM324D
designator DA?  man: LM324D  (hidden comment: *)
footprint SOIC-14
part A pins: 1 OUT2, 2 1-, 3 1+, 4 VCC+, 11 VCC-
part B pins: 4 VCC+, 5 2+, 6 2-, 7 OUT2, 11 VCC-
part C pins: 4 VCC+, 8 OUT2, 9 3-, 10 3+, 11 VCC-
part D pins: 4 VCC+, 11 VCC-, 12 4+, 13 4-, 14 OUT2

## LM555
designator DA?
Value: *
footprint DIP8_SMD
pins: 1 GND, 2 S, 3 OUT, 4 ~{RES}, 5 CONTROL, 6 THRES, 7 DISCH, 8 VCC

## LM1117
designator DA?
800mA Low-Dropout Linear Regulator
footprint SOT223
pins: 1 Vin, 2 ADJ, 3 Vout

## LM7805_D2PAK
designator DA?
Value: *
footprint D2PAK_LM7805_D2PAK(Primary)
pins: 1 IN, 2 GND, 3 OUT

## MAC16NG
designator VS?  (value not drawn)
Value: {Value}
footprint TO220_V_MAC16NG(Primary)
pins: b MT1, c MT2, e GATE

## MAX4126
designator DA?  man: MAX4126ESA+  (hidden comment: *)
footprint SOIC-8
part A pins: 1 OUT1, 2 IN1-, 3 IN1+, 4 VEE, 8 VCC
part B pins: 4 VEE, 5 IN2+, 6 IN2-, 7 OUT2, 8 VCC

## MB6S
designator VD?, comment MB6S@FAIR
Fast Recovery  Surface Mount Bridge Rectifier; man: MB6S@FAIR
footprint TO-269AA(MBS)
pins: 1 ~, 2 ~, 3 +, 4 -

## MBR0530
designator VD?  (value not drawn)
MBRS340_SHOTTKY; Value: {Value}
footprint DIODE_SMD_S300X400_7X6MM_MBRS340_SHOTTKY(Primary)
footprint SOD123 (SOD-123; 2 Leads; Body 2.7 x 1.6 mm, (LxW))
footprint MBR0530 (diode_schottky)
pins: 1 (power), 2 (power)

## MBR_0530
designator VD?, comment MBR0503
Shottky Reaktifier
footprint MBR0530 (diode_schottky)
footprint SOD123 (SOD-123; 2 Leads; Body 2.7 x 1.6 mm, (LxW))
footprint DIODE_SMD_S300X400_7X6MM_MBRS340_SHOTTKY(Primary)
pins: 1, 2

## MBRS130LT3G
designator VD?  (value not drawn)
Value: {Value}
footprint SMB_DO214AA
footprint SOD123 (SOD-123; 2 Leads; Body 2.7 x 1.6 mm, (LxW))
pins: 1 anode, 2 katode

## MBRS340_SHOTTKY
designator VD?  (value not drawn)
Value: {Value}
footprint DIODE_SMD_S300X400_7X6MM_MBRS340_SHOTTKY(Primary)
footprint SOD123 (SOD-123; 2 Leads; Body 2.7 x 1.6 mm, (LxW))
pins: 1 anode, 2 katode

## MC33153
designator DA?
IGBT driver for high  power applications; Value: *
footprint SOIC-8
pins: 1 CurrSence, 2 KelvinGnd, 3 Vee, 4 ~{Input}, 5 DriveOut, 6 Vcc, 7 FaultOut, 8 FaultBlanking/DesatInput

## MC34063
designator DA?
Value: *
footprint SOIC-8
pins: 1 SwCol, 2 SwEm, 3 TiCap, 4 GND, 5 CompIn, 6 Vcc, 7 ISense, 8 DrvrColl

## MicroUSB AB
designator XS?  (value not drawn)
MicroUSB AB; type: MicroUSB AB
footprint MicroUSB AB
pins: 0 gate, 1 gate, 2 gate, 3 gate, 4 gate, 5 gate
text: Конт.; Цепь

## MMBT3904
designator *
footprint SOT23
pins: 1 base, 2 emitter, 3 collector

## MMBT3906
designator VT?  man: MMBT3906  (hidden comment: *)
footprint SOT23
pins: 1 base, 2 emitter, 3 collector

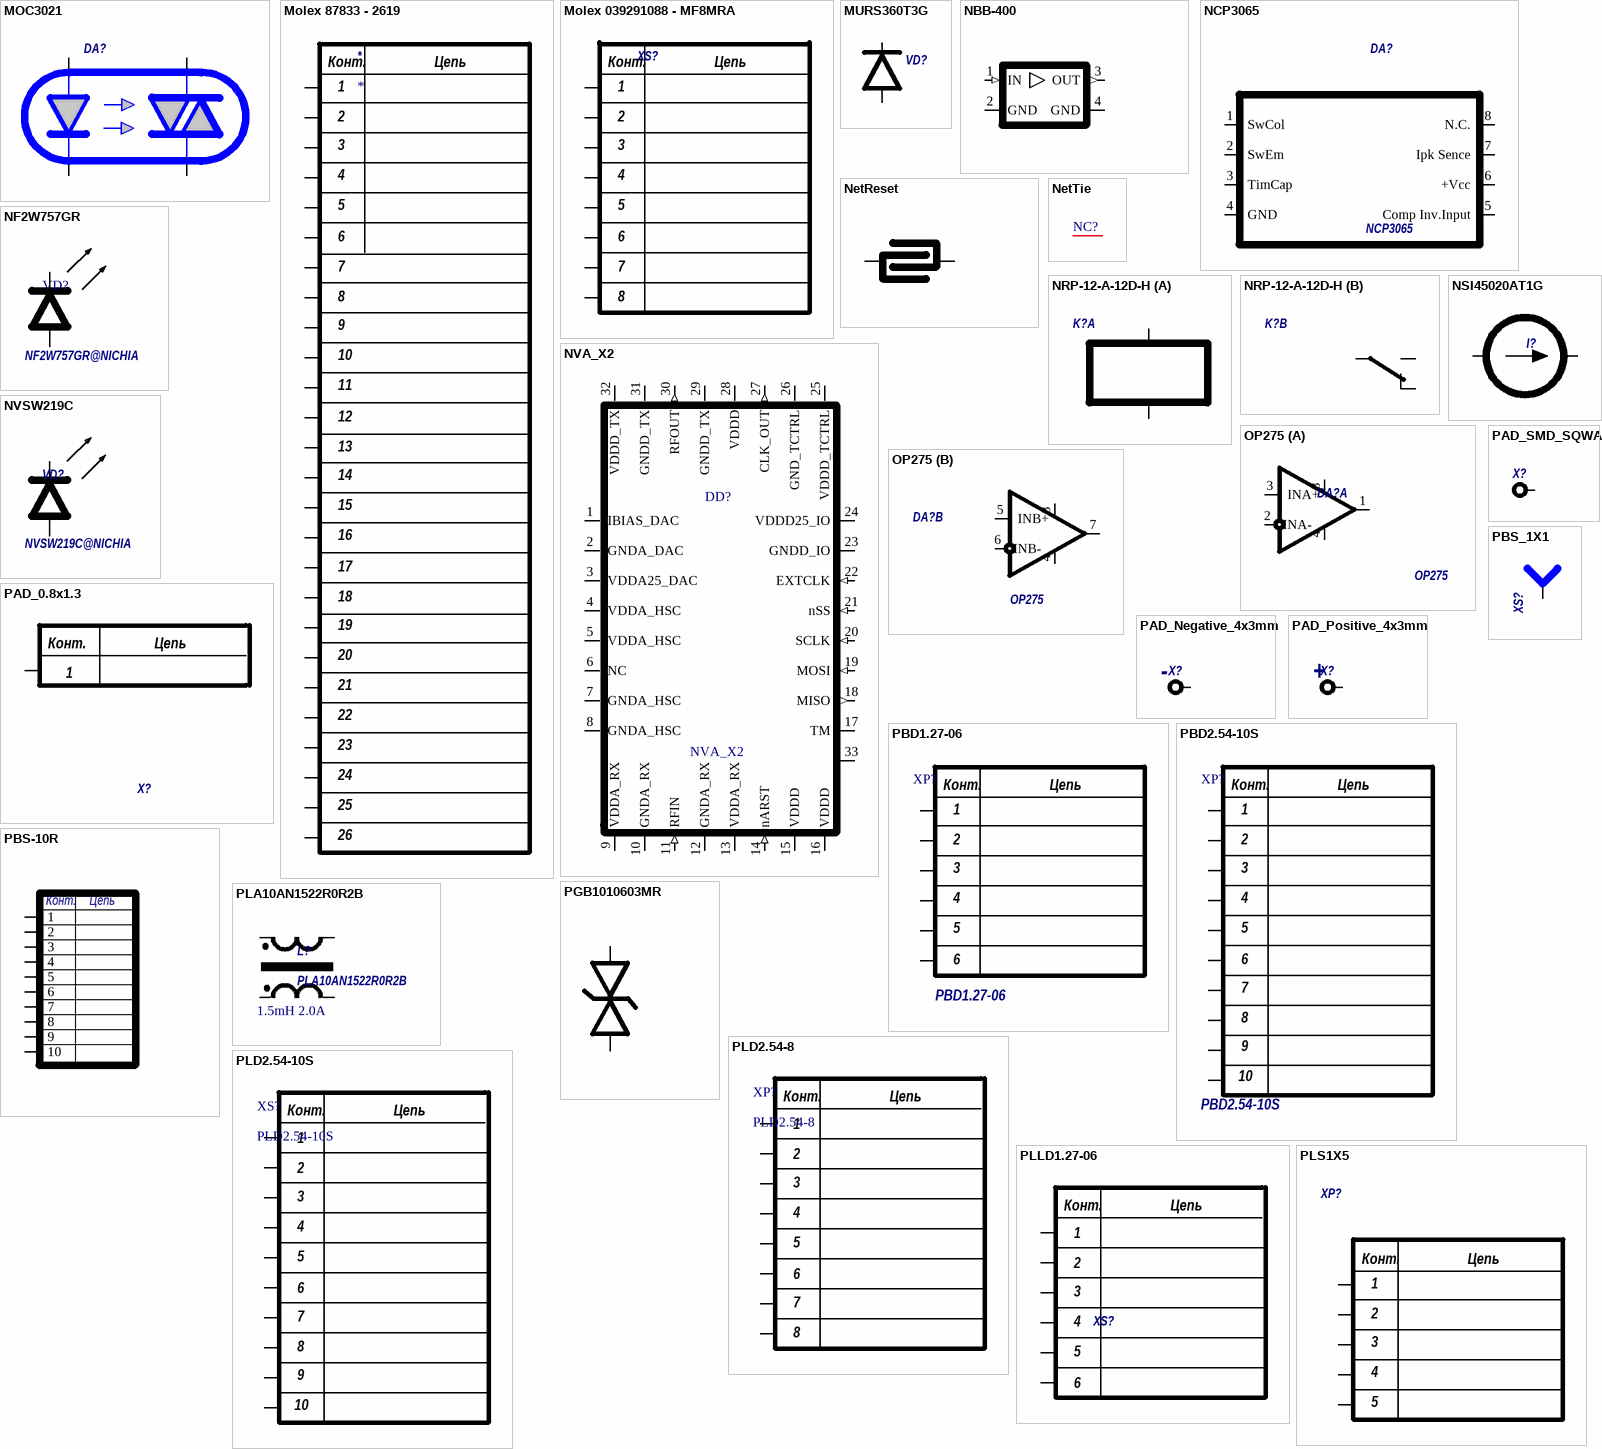
[diagram p4: symbols MOC3021 to PLS1X5]

## MOC3021
designator DA?  (value not drawn)
Value: {Value}
footprint DIP6_SMD
pins: 1 anode, 2 cathode, 4 T2, 6 T1

## Molex 87833 - 2619
designator *
footprint Molex 87833-2619
pins: 1 gate, 2 gate, 3 gate, 4 gate, 5 gate, 6 gate, 7 gate, 8 gate, 9 gate, 10 gate, 11 gate, 12 gate, 13 gate, 14 gate, 15 gate, 16 gate, 17 gate, 18 gate, 19 gate, 20 gate, 21 gate, 22 gate, 23 gate, 24 gate, 25 gate, 26 gate
text: Конт.; Цепь

## Molex 039291088 - MF8MRA
designator XS?  (value not drawn)
footprint Molex 039291088
pins: 1 XS, 2 XS, 3 XS, 4 XS, 5 XS, 6 XS, 7 XS, 8 XS8
text: Конт.; Цепь

## MURS360T3G
designator VD?  (value not drawn)
ULTRAFAST RECTIFIER; Value: {Value}
footprint DO-214AB (Diode SMT package)
pins: 1 a, 2 k

## NBB-400
designator DA?
Cascadable Broadband GaAs MMIC Amplifier  DC to 8  GHz
footprint Micro-X
pins: 1 IN (in), 2 GND (power), 3 OUT (out), 4 GND (power)

## NCP3065
designator DA?
man: NCP3065DR2G@ONS
footprint SOIC-8
pins: 1 SwCol, 2 SwEm, 3 TimCap, 4 GND, 5 Comp Inv.Input, 6 +Vcc, 7 Ipk Sence, 8 N.C.

## NetReset
designator SB?, comment Reset button footprint
Reset footprint
footprint RESET_footprint
pins: 1, 2

## NetTie
designator NC?  (value not drawn)  (net tie, no BOM)
footprint NetConnector
pins: 1, 2

## NF2W757GR
designator VD?  man: NF2W757GR@NICHIA  (hidden comment: NF2W757GR)
footprint NF2W757GR (NICHIA)
pins: 1 A, 2 K

## NRP-12-A-12D-H
designator K?  (value not drawn)
Miniature PCB relay; Value: *
footprint NRP-12-A-12D-H (Miniature PCB Relay)
part A pins: 1, 2
part B pins: 3, 4, 5

## NSI45020AT1G
designator I?  (value not drawn)
Constant current regulator; Value: {Value}
footprint SOD123 (SOD-123; 2 Leads; Body 2.7 x 1.6 mm, (LxW))
pins: 1 a, 2 k

## NVA_X2
designator DD?
footprint 32QFN_5x5mm
footprint QFN32_5x5mm
pins: 1 IBIAS_DAC (io), 2 GNDA_DAC (power), 3 VDDA25_DAC (power), 4 VDDA_HSC (power), 5 VDDA_HSC (power), 6 NC, 7 GNDA_HSC (power), 8 GNDA_HSC (power), 9 VDDA_RX (power), 10 GNDA_RX (power), 11 RFIN (in), 12 GNDA_RX (power), 13 VDDA_RX (power), 14 nARST (in), 15 VDDD (power), 16 VDDD (power), 17 TM, 18 MISO (out), 19 MOSI (in), 20 SCLK (in), 21 nSS (in), 22 EXTCLK (in), 23 GNDD_IO (power), 24 VDDD25_IO (power), 25 VDDD_TCTRL (power), 26 GND_TCTRL (power), 27 CLK_OUT (out), 28 VDDD (power), 29 GNDD_TX (power), 30 RFOUT (out), 31 GNDD_TX (power), 32 VDDD_TX (power), 33 GND

## NVSW219C
designator VD?  man: NVSW219C@NICHIA  (hidden comment: *)
NVSW219C
footprint NVSW219C (NICHIA Power LED)
pins: 1 A, 2 K

## OP275
designator DA?  man: OP275  (hidden comment: *)
Dual Bipolar/JFET, Audio operational Amplifier
footprint SOIC-8
part A pins: 1 OUTA, 2 INA-, 3 INA+, 4 VEE, 8 VCC
part B pins: 4 VEE, 5 INB+, 6 INB-, 7 OUTB, 8 VCC

## PAD_0.8x1.3
designator X?  (value not drawn)
footprint PAD_0.8x1.3
pins: 1
text: Конт.; Цепь

## PAD_Negative_4x3mm
designator X?  (value not drawn)
footprint PAD_Negative_4x3mm
pins: 1
text: -

## PAD_Positive_4x3mm
designator X?  (value not drawn)
footprint PAD_Positve_4x3mm
pins: 1
text: +

## PAD_SMD_SQWARE
designator X?  (value not drawn)
footprint PAD_4.5x3(3.5x2)
footprint PAD_6x3(5x2)
footprint PAD_7x3(6x2)
pins: 1

## PBD1.27-06
designator XP?  (value not drawn)
PBD1.27-06; type: PBD1.27-06
footprint PBD1.27-06S
pins: 1 gate, 1 gate, 1 gate, 1 gate, 1 gate, 1 gate
text: Конт.; Цепь; 2; 3; 4; 5; 6

## PBD2.54-10S
designator XP?  (value not drawn)
PBD2.54-10S; type: PBD2.54-10S
footprint PBD2.54-10S
pins: 1 gate, 1 gate, 1 gate, 1 gate, 1 gate, 1 gate, 1 gate, 1 gate, 1 gate, 1 gate
text: Конт.; Цепь; 2; 3; 4; 5; 6; 7; 8; 9; 10

## PBS-10R
designator XS?
PBS connector
footprint PBS-10R
pins: 1 (power), 2, 3 (power), 4, 5, 6, 7, 8 (power), 9 (power), 10 (power)
text: Конт.; Цепь

## PBS_1X1
designator XS?  (value not drawn)
Value: *
footprint PLSX1
pins: 1

## PGB1010603MR
designator VD?
footprint 0603_PGB1010603 (SMD0603)
pins: 1, 2

## PLA10AN1522R0R2B
designator L?  value 1.5mH 2.0А
AC Line Filters; fab: PLA10AN1522R0R2B
footprint PLA10AN3030R4R2
pins: 1, 4, 5, 8

## PLD2.54-8
designator XP?
type: PLD2.54-8
footprint PLD2X4_254
pins: 1 XP, 2 XP, 3 XP, 4 XP, 5 XP, 6 XP, 7 XP, 8 XP
text: Конт.; Цепь

## PLD2.54-10S
designator XS?
type: PLD2.54-10S
footprint PLD2.54-10S
pins: 1 gate, 1 gate, 1 gate, 1 gate, 1 gate, 1 gate, 1 gate, 1 gate, 1 gate, 1 gate
text: Конт.; Цепь; 2; 3; 4; 5; 6; 7; 8; 9; 10

## PLLD1.27-06
designator XS?  (value not drawn)
type: PLLD1.27-06
footprint PLLD1.27-06
footprint PLLD1.27-06S
pins: 1 gate, 1 gate, 1 gate, 1 gate, 1 gate, 1 gate
text: Конт.; Цепь; 2; 3; 4; 5; 6

## PLS1X5
designator XP?  (value not drawn)
Value: *
footprint PLS1X5_254
pins: 1 XP, 2 XP, 3 XP, 4 XP, 5 XP
text: Конт.; Цепь

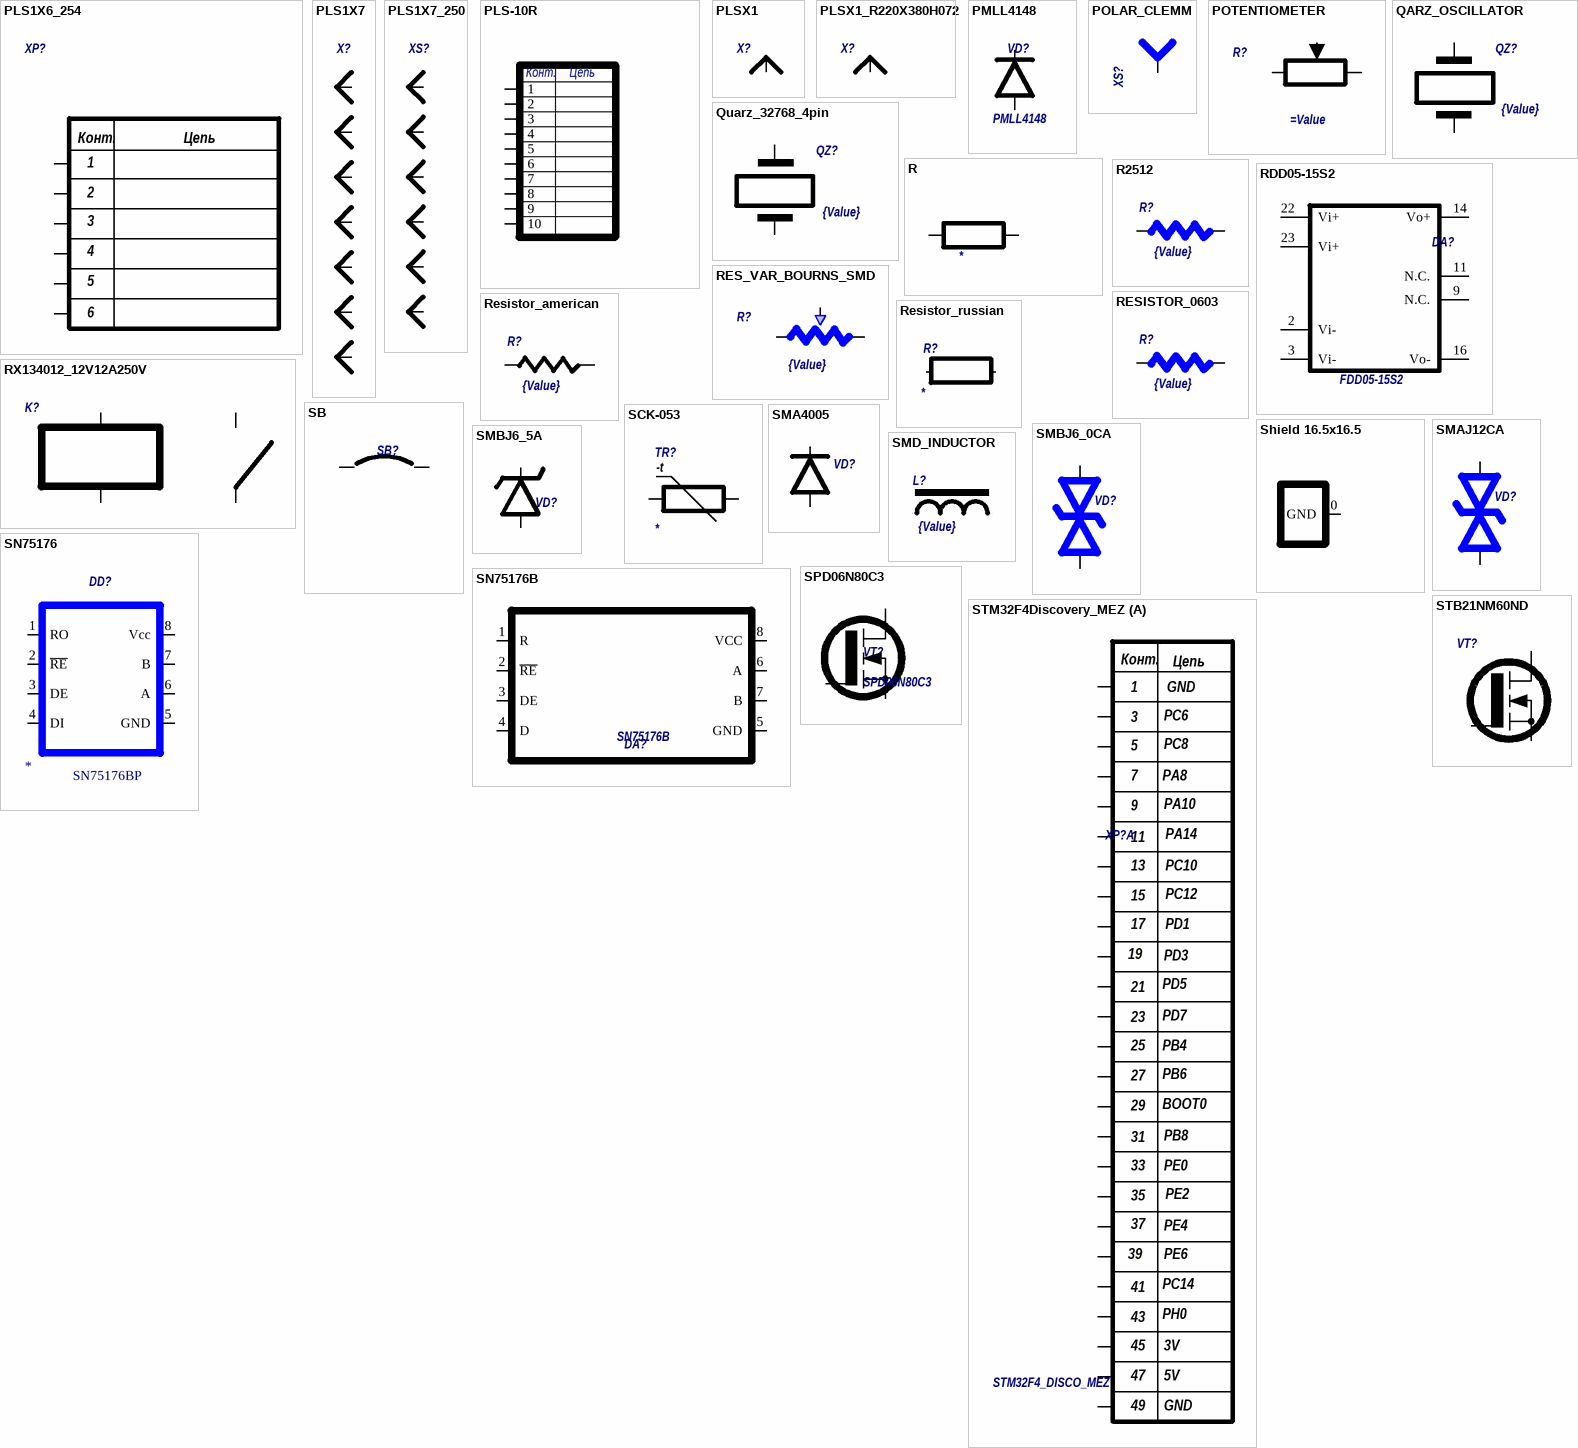
[diagram p5: symbols PLS1X6_254 to STM32F4Discovery_MEZ]

## PLS1X6_254
designator XP?, comment PLS1X6_250  (value not drawn)
Value: *
footprint PLS1X6_254
pins: 1 XP, 2 XP, 3 XP, 4 XP, 5 XP, 6 XP
text: Конт.; Цепь

## PLS1X7
designator X?  (value not drawn)
Value: *
footprint PLS1X7_256
pins: 1, 2, 3, 4, 5, 6, 7

## PLS1X7_250
designator XS?, comment PLS1X6_250  (value not drawn)
Value: *
footprint PLS1X6_250
pins: 1, 2, 3, 4, 5, 6

## PLS-10R
designator XP?
PLS connector
footprint PLS-10R
pins: 1 (power), 2 (power), 3 (power), 4, 5, 6, 7, 8 (power), 9 (power), 10
text: Конт.; Цепь

## PLSX1
designator X?  (value not drawn)
Value: *
footprint PLSX1
pins: 1

## PLSX1_R220X380H072
designator X?  (value not drawn)
Value: *
footprint PLSX1_R220X380H072
pins: 1

## PMLL4148
designator VD?  man: PMLL4148  (hidden comment: *)
footprint SOD80C
pins: 1 a, 2 k

## POLAR_CLEMM
designator XS?  (value not drawn)
Value: *
footprint POLAR_CLEMM
pins: 1

## POTENTIOMETER
designator R?
Variable resistor
footprint RESISTOR_3224W_BOURNS_RESISTOR_3224W_BOURNS(Primary)
footprint RESISTOR_3224G
footprint potentiometer_bourns
pins: 1, 2, 3

## QARZ_OSCILLATOR
designator QZ?  value {Value}  (hidden comment: QARZ_OSCILLATOR)
footprint QUARZ_PATTERN
footprint QUARZ_32768HZ
footprint ABS07_1.9x3.2mm
footprint HC-49S
pins: 1, 2

## Quarz_32768_4pin
designator QZ?  value {Value}  (hidden comment: Quarz_32768_4pin)
QZ_32768HZ
footprint QUARZ_32768HZ
footprint MC-306 (MC-306 Quartz crystal unit)
pins: 1 S1, 3 S3 hidden, 4 S4 hidden, 4 S2

## R
designator R?
SMD resistor; Value: *
footprint R0402 (Chip Resistor, Body 1.1x0.5mm, IPC Medium Density)
footprint R0603 (SMD0603)
footprint R2512
footprint R0805 (SMD0805)
pins: 1, 2

## R2512
designator R?  value {Value}  (hidden comment: R2512)
footprint R2512
pins: 1, 2

## RDD05-15S2
designator DA?  man: FDD05-15S2  (hidden comment: *)
DC - DC CONVERTER  5 ~ 6W SINGLE OUTPUT
footprint FDD03-05S4
pins: 2 Vi-, 3 Vi-, 9 N.C., 11 N.C., 14 Vo+, 16 Vo-, 22 Vi+, 23 Vi+

## RES_VAR_BOURNS_SMD
designator R?  value {Value}  (hidden comment: RES_VAR_BOURNS_SMD)
footprint RESISTOR_3314G_BOURNS_RES_VAR_BOURNS_SMD(Primary)
pins: 1, 2, 3

## RESISTOR_0603
designator R?  value {Value}  (hidden comment: RESISTOR_0603)
footprint SMD 0603
pins: 1 2, 2 1

## Resistor_american
designator R?, comment value {Value}  (hidden comment: RES_1206T)
footprint 1206T_RES_1206T(Primary)
footprint R0402 (Chip Resistor, Body 1.1x0.5mm, IPC Medium Density)
footprint R0603 (SMD0603)
footprint R2512
pins: 1, 2

## Resistor_russian
designator R?
Resistor; Value: *
footprint R0402 (Chip Resistor, Body 1.1x0.5mm, IPC Medium Density)
footprint R0603 (SMD0603)
footprint 2512T-1206T
footprint R1206
footprint R0805 (SMD0805)
footprint R2512
footprint 2010T
footprint RESISTOR_0.25W_VERTICAL
footprint RESISTOR_0.5W_VERTICAL_pitch6.0mm
pins: 1, 2

## RX134012_12V12A250V
designator K?  (value not drawn)
Value: *
footprint RX134012_12VDC12A250V
pins: 1, 2, 3, 4

## SB
designator SB?  (value not drawn)
footprint SB0603 (Jumper on board)
pins: 1, 2

## SCK-053
designator TR?
NTC termisor; Parameter: *
footprint SCK-053
pins: 1, 2
text: -t

## Shield 16.5x16.5
designator SH?
EMS Shield
footprint Shield_16.5x16.5
footprint Shield_16.5x16.5_cutted
pins: 0 GND

## SMA4005
designator VD?  (value not drawn)
Surface mount sislicon rectifier 1A 600V; Value: {Value}; fab: *
footprint SMA_DO214AC
pins: 1, 2

## SMAJ12CA
designator VD?  (value not drawn)
Value: {Value}
footprint SMA_DO214AC
pins: 1 katode, 2 anode

## SMBJ6_0CA
designator VD?  (value not drawn)
Value: {Value}
footprint SMB_DO214AA
pins: 1 katode, 2 anode

## SMBJ6_5A
designator VD?  (value not drawn)
SMBJ6_0CA; Value: {Value}
footprint SMB_DO214AA
pins: 1 anode, 2 katode

## SMD_INDUCTOR
designator L?  value {Value}  (hidden comment: SMD_INDUCTOR)
footprint L_SMD
pins: 1, 2

## SN75176
designator DD?  value SN75176BP  (hidden comment: SN75176)
SN75176BP; man: *
footprint DIP8_SMD
pins: 1 RO, 2 ~{RE}, 3 DE, 4 DI, 5 GND, 6 A, 7 B, 8 Vcc

## SN75176B
designator DA?
value: SN75176B
footprint R-PDSO-G8
footprint DIP8_SMD
pins: 1 R, 2 ~{RE}, 3 DE, 4 D, 5 GND, 6 A, 7 B, 8 VCC

## SPD06N80C3
designator VT?
CoolMOS Power Transistor; value: *
footprint PG-TO252-3
pins: 1 gate, 2 drain, 3 source

## STB21NM60ND
designator VT?  (value not drawn)
N-channel 600 V, 0.17 Ω typ., 17 A; Value: {Value}
footprint TO220_H
footprint D2PAK
pins: 1 gate, 2 drain, 3 source

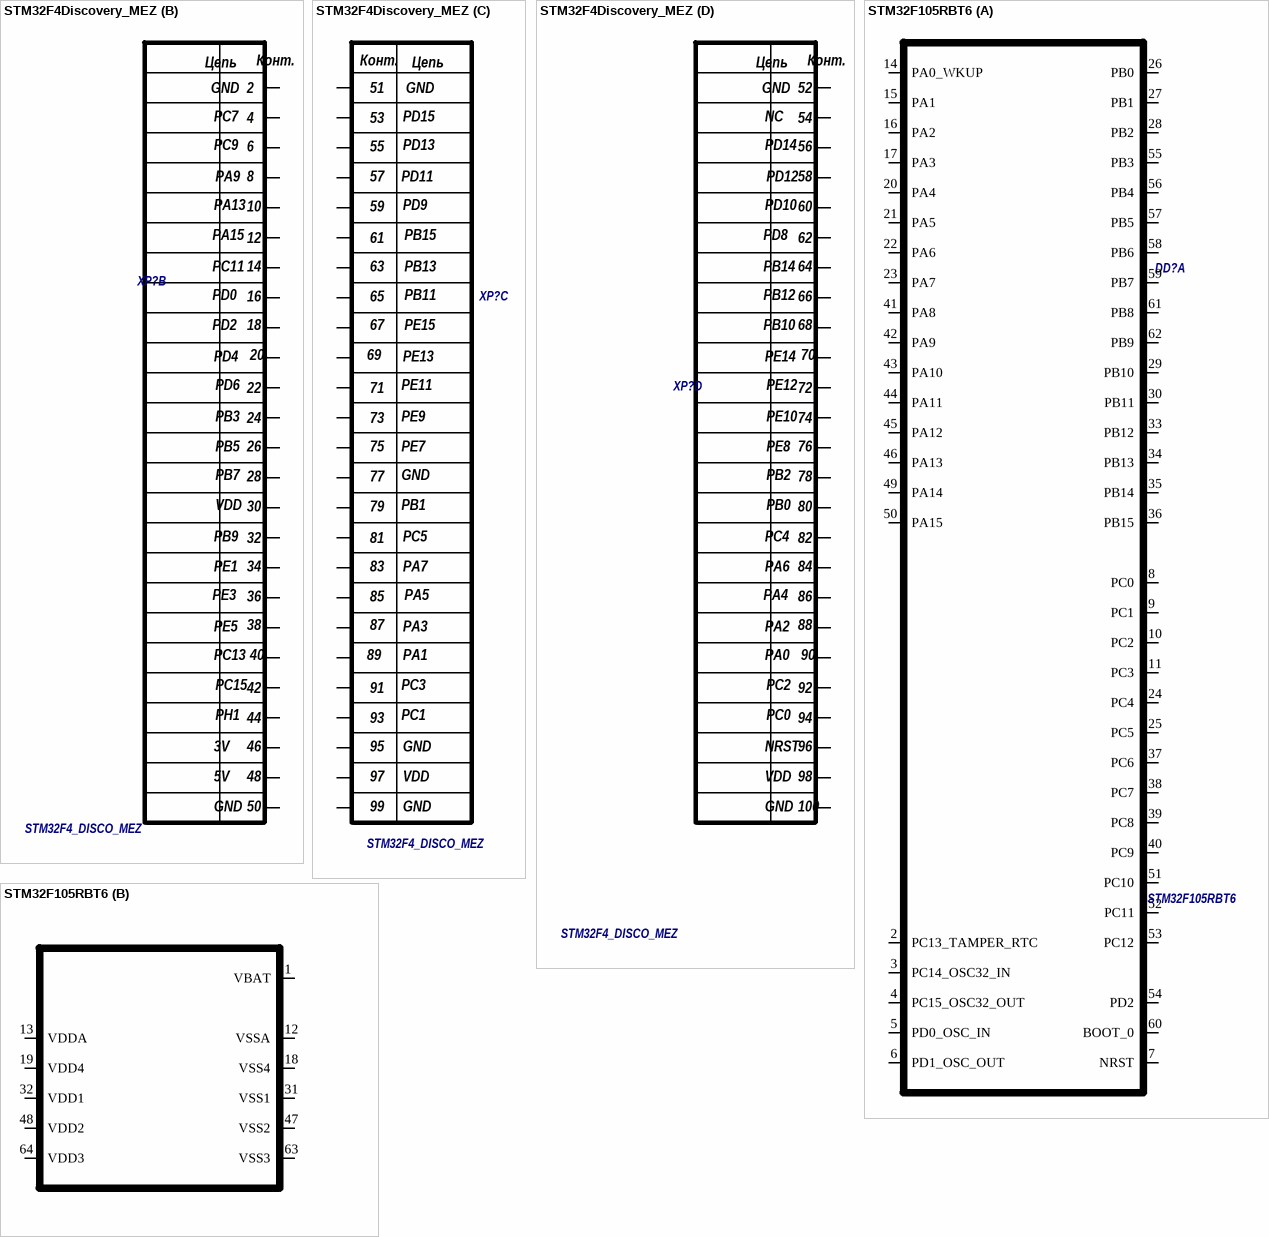
[diagram p6: symbols STM32F4Discovery_MEZ to STM32F105RBT6]

## STM32F4Discovery_MEZ
designator XP?  man: STM32F4_DISCO_MEZ  (hidden comment: *)
footprint STM32F4DISCOVERY_MEZ
part A pins: 1 GND, 3 PC6, 5 PC8, 7 PA8, 9 PA10, 11 PA14, 13 PC10, 15 PC12, 17 PD1, 19 PD3, 21 PD5, 23 PD7, 25 PB4, 27 PB6, 29 BOOT0, 31 PB8, 33 PE0, 35 PE2, 37 PE4, 39 PE6, 41 PC14, 43 PH0, 45 3V, 47 5V, 49 GND
part B pins: 2 GND, 4 PC7, 6 PC9, 8 PA9, 10 PA13, 12 PA15, 14 PC11, 16 PD0, 18 PD2, 20 PD4, 22 PD6, 24 PB3, 26 PB5, 28 PB7, 30 VDD, 32 PB9, 34 PE1, 36 PE3, 38 PE5, 40 PC13, 42 PC15, 44 PH1, 46 3V, 48 5V, 50 GND
part C pins: 51 GND, 53 PD15, 55 PD13, 57 PD11, 59 PD9, 61 PB15, 63 PB13, 65 PB11, 67 PE15, 69 PE13, 71 PE11, 73 PE9, 75 PE7, 77 GND, 79 PB1, 81 PC5, 83 PA7, 85 PA5, 87 PA3, 89 PA1, 91 PC3, 93 PC1, 95 GND, 97 VDD, 99 GND
part D pins: 52 GND, 54 NC, 56 PD14, 58 PD12, 60 PD10, 62 PD8, 64 PB14, 66 PB12, 68 PB10, 70 PE14, 72 PE12, 74 PE10, 76 PE8, 78 PB2, 80 PB0, 82 PC4, 84 PA6, 86 PA4, 88 PA2, 90 PA0, 92 PC2, 94 PC0, 96 NRST, 98 VDD, 100 GND
part A text: Конт.; Цепь
part B text: Цепь; Конт.
part C text: Конт.; Цепь
part D text: Цепь; Конт.

## STM32F105RBT6
designator DD?
Connectivity line, ARM®-based 32-bit MCU with 128 KB Flash, USB  OTG, 10 timers, 2 CANs, 2 ADCs, 14 communication interfaces; Value: *
footprint LQFP64_L (Thin QFP, 64-Leads, Body 10x10mm, Pitch 0.5mm, IPC High Density)
part A pins: 2 PC13_TAMPER_RTC, 3 PC14_OSC32_IN, 4 PC15_OSC32_OUT, 5 PD0_OSC_IN, 6 PD1_OSC_OUT, 7 NRST, 8 PC0, 9 PC1, 10 PC2, 11 PC3, 14 PA0_WKUP, 15 PA1, 16 PA2, 17 PA3, 20 PA4, 21 PA5, 22 PA6, 23 PA7, 24 PC4, 25 PC5, 26 PB0, 27 PB1, 28 PB2, 29 PB10, 30 PB11, 33 PB12, 34 PB13, 35 PB14, 36 PB15, 37 PC6, 38 PC7, 39 PC8, 40 PC9, 41 PA8, 42 PA9, 43 PA10, 44 PA11, 45 PA12, 46 PA13, 49 PA14, 50 PA15, 51 PC10, 52 PC11, 53 PC12, 54 PD2, 55 PB3, 56 PB4, 57 PB5, 58 PB6, 59 PB7, 60 BOOT_0, 61 PB8, 62 PB9
part B pins: 1 VBAT, 12 VSSA, 13 VDDA, 18 VSS4, 19 VDD4, 31 VSS1, 32 VDD1, 47 VSS2, 48 VDD2, 63 VSS3, 64 VDD3

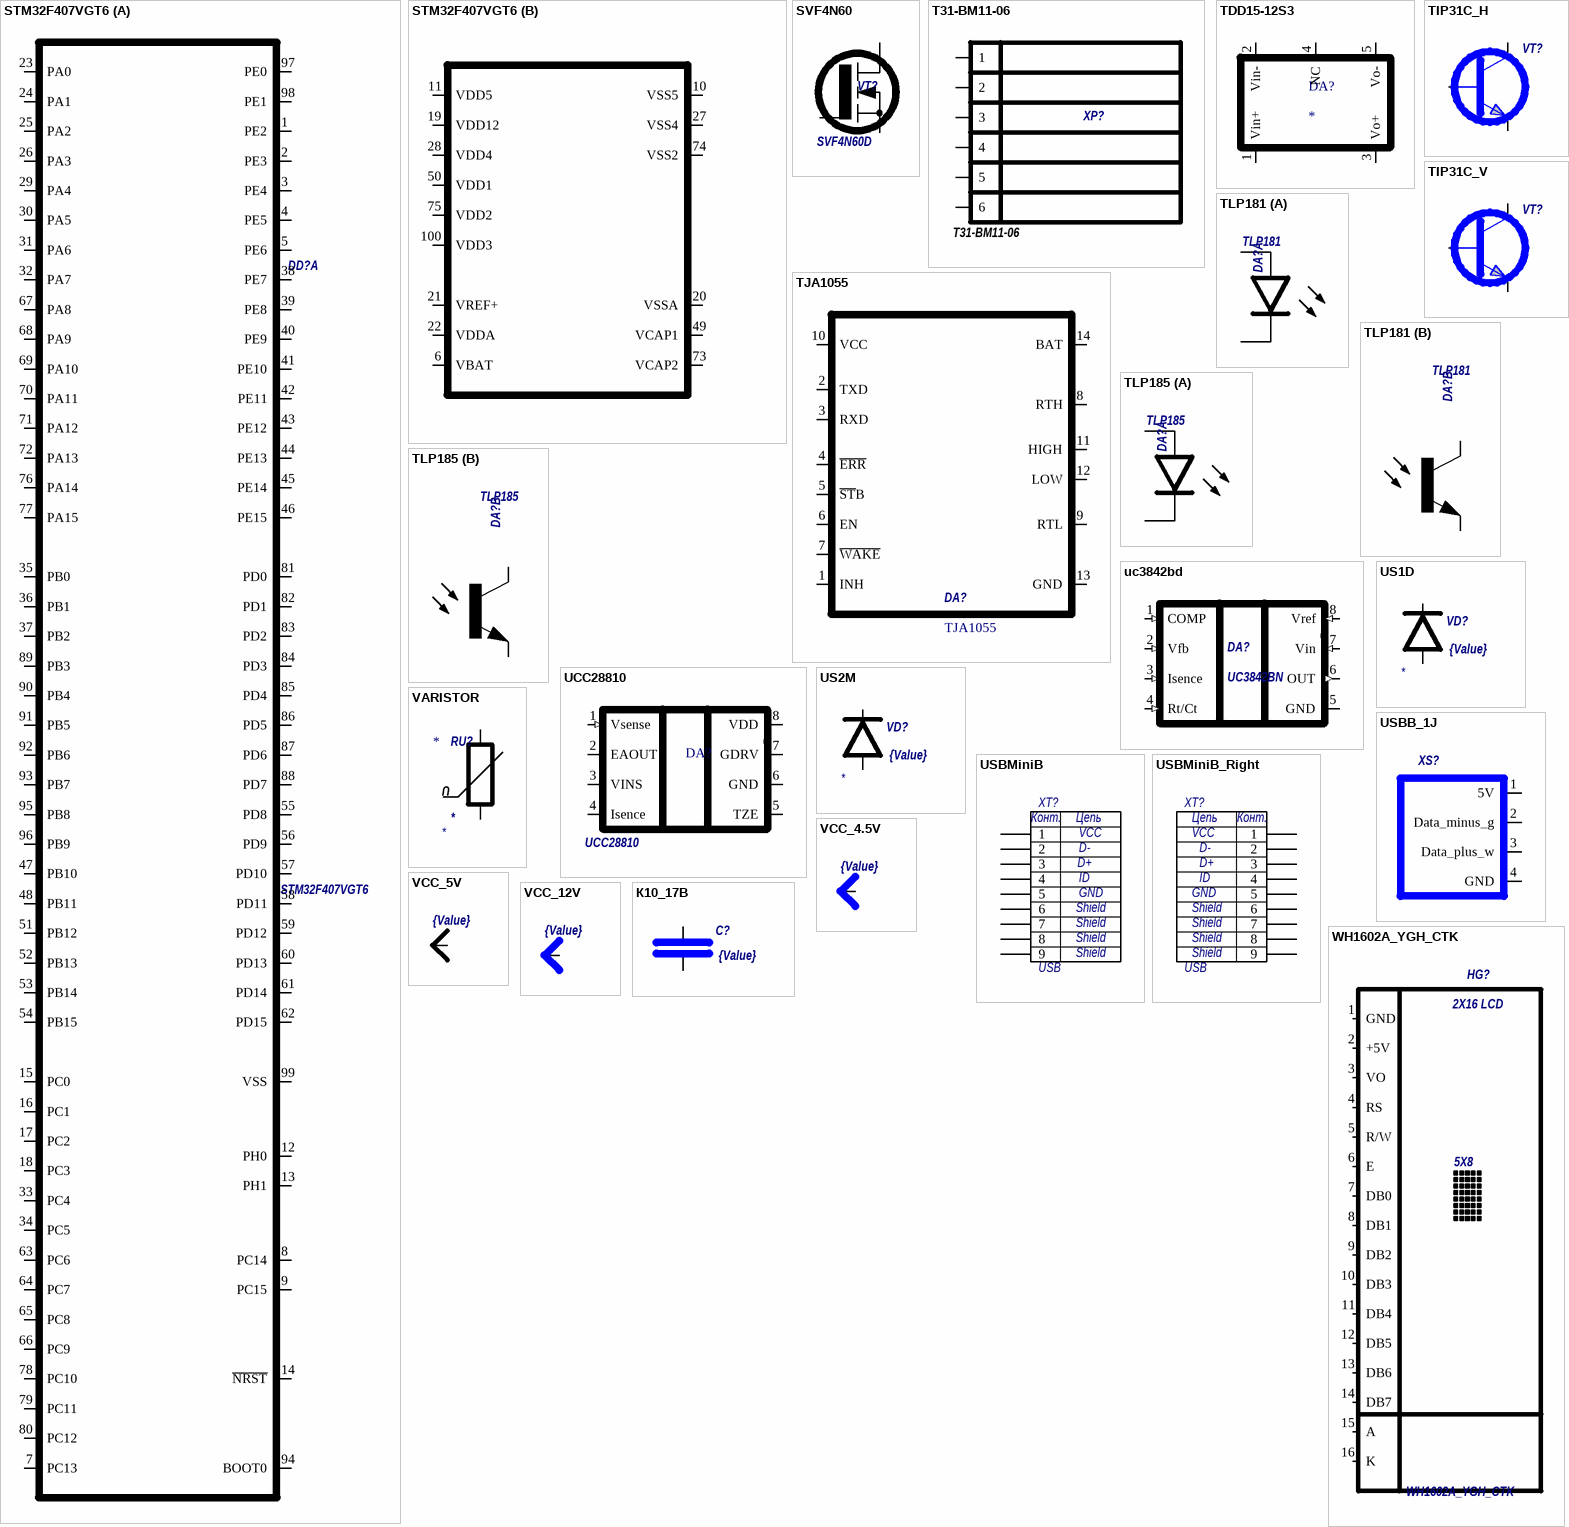
[diagram p7: symbols STM32F407VGT6 to К10_17B]

## STM32F407VGT6
designator DD?
Value: *
footprint LQFP100
part A pins: 1 PE2, 2 PE3, 3 PE4, 4 PE5, 5 PE6, 7 PC13, 8 PC14, 9 PC15, 12 PH0, 13 PH1, 14 ~{NRST}, 15 PC0, 16 PC1, 17 PC2, 18 PC3, 23 PA0, 24 PA1, 25 PA2, 26 PA3, 29 PA4, 30 PA5, 31 PA6, 32 PA7, 33 PC4, 34 PC5, 35 PB0, 36 PB1, 37 PB2, 38 PE7, 39 PE8, 40 PE9, 41 PE10, 42 PE11, 43 PE12, 44 PE13, 45 PE14, 46 PE15, 47 PB10, 48 PB11, 51 PB12, 52 PB13, 53 PB14, 54 PB15, 55 PD8, 56 PD9, 57 PD10, 58 PD11, 59 PD12, 60 PD13, 61 PD14, 62 PD15, 63 PC6, 64 PC7, 65 PC8, 66 PC9, 67 PA8, 68 PA9, 69 PA10, 70 PA11, 71 PA12, 72 PA13, 76 PA14, 77 PA15, 78 PC10, 79 PC11, 80 PC12, 81 PD0, 82 PD1, 83 PD2, 84 PD3, 85 PD4, 86 PD5, 87 PD6, 88 PD7, 89 PB3, 90 PB4, 91 PB5, 92 PB6, 93 PB7, 94 BOOT0, 95 PB8, 96 PB9, 97 PE0, 98 PE1, 99 VSS
part B pins: 6 VBAT, 10 VSS5, 11 VDD5, 19 VDD12, 20 VSSA, 21 VREF+, 22 VDDA, 27 VSS4, 28 VDD4, 49 VCAP1, 50 VDD1, 73 VCAP2, 74 VSS2, 75 VDD2, 100 VDD3

## SVF4N60
designator VT?  man: SVF4N60D  (hidden comment: *)
4A, 600V N-CHANNEL MOSFET
footprint DPAK
pins: 1 source, 2 gate, 3 drain

## T31-BM11-06
designator XP?  man: T31-BM11-06  (hidden comment: *)
footprint T31-BM11-06
pins: 1, 2, 3, 4, 5, 6

## TDD15-12S3
designator DA?
TDD15-12S3
footprint TDD15-12S3
pins: 1 Vin+, 2 Vin-, 3 Vo+, 4 NC, 5 Vo-

## TIP31C_H
designator VT?  (value not drawn)
Value: {Value}
footprint TO220_H_TIP31C_H(Primary)
pins: b base, c collector, e emitter

## TIP31C_V
designator VT?  (value not drawn)
Value: {Value}
footprint TO220_V_TIP31C_V(Primary)
pins: b base, c collector, e emitter

## TJA1055
designator DA?
value: TJA1055
footprint SOIC-14
pins: 1 INH, 2 TXD, 3 RXD, 4 ~{ERR}, 5 ~{ST}B, 6 EN, 7 ~{WAKE}, 8 RTH, 9 RTL, 10 VCC, 11 HIGH, 12 LOW, 13 GND, 14 BAT

## TLP181
designator DA?
TOSHIBA Photocoupler; Value: {Value}; man: TLP181
footprint TLP185 (Optocoupler)
part A pins: 1 a, 3 k
part B pins: 4 drain, 6 drain

## TLP185
designator DA?
TOSHIBA Photocoupler; Value: {Value}; man: TLP185
footprint TLP185 (Optocoupler)
part A pins: 1 a, 3 k
part B pins: 4 drain, 6 drain

## uc3842bd
designator DA?, comment UC3842BN
High performance current mode PWM controller
footprint SOIC-8
pins: 1 COMP (in), 2 Vfb (in), 3 Isence (in), 4 Rt/Ct (in), 5 GND (power), 6 OUT (out), 7 Vin (in), 8 Vref (in)

## UCC28810
designator DA?  man: UCC28810  (hidden comment: *)
footprint SOIC-8
pins: 1 Vsense (in), 2 EAOUT, 3 VINS, 4 Isence, 5 TZE (power), 6 GND, 7 GDRV, 8 VDD

## US1D
designator VD?  value {Value}  (hidden comment: US1D)
Pulse reactifier; fab: *
footprint SMB_DO214AA
footprint SMA_DO214AC
pins: 1, 2

## US2M
designator VD?  value {Value}  (hidden comment: US2M)
Pulse reactifier; fab: *
footprint SMB_DO214AA
footprint SMA_DO214AC
pins: 1, 2

## USBB_1J
designator XS?  (value not drawn)
Value: *
footprint USBB_1J
pins: 1 5V, 2 Data_minus_g, 3 Data_plus_w, 4 GND

## USBMiniB
designator XT?, comment USB
USB Mini B connector
footprint USB/SM0.8-6H5 (Connector; USB2.0, Type B, SM; 5 Position; Right Angle)
pins: 1, 2, 3, 4, 5, 6, 7, 8, 9
text: Конт.; Цепь; VCC; D-; D+; ID; GND; Shield

## USBMiniB_Right
designator XT?, comment USB
USB Mini B connector
footprint USB/SM0.8-6H5 (Connector; USB2.0, Type B, SM; 5 Position; Right Angle)
pins: 1, 2, 3, 4, 5, 6, 7, 8, 9
text: Цепь; Конт.; VCC; D-; D+; ID; GND; Shield

## VARISTOR
designator RU?
VARISTOR; Parameter: *; fab: *
footprint SCK-053
footprint 3225
pins: 1, 2
text: U

## VCC_4.5V
designator PWR?  value {Value}  (hidden comment: VCC_4.5V)
pins: 1 +4.5V (power)

## VCC_5V
designator PWR?  value {Value}  (hidden comment: VCC_5V)
pins: 1 +5V (power)

## VCC_12V
designator PWR?  value {Value}  (hidden comment: VCC_12V)
pins: 1 +12V (power)

## WH1602A_YGH_CTK
designator HG?
Value: *
footprint WH1602A_YGH_CTK
pins: 1 GND, 2 +5V, 3 VO, 4 RS, 5 R/W, 6 E, 7 DB0, 8 DB1, 9 DB2, 10 DB3, 11 DB4, 12 DB5, 13 DB6, 14 DB7, 15 A, 16 K, A hidden, G hidden, K hidden
text: 2X16 LCD; 5X8

## К10_17B
designator С?  value {Value}  (hidden comment: К10_17B)
footprint K10-17Б_К10_17B()
pins: 1 2, 2 1